# Altium schematic symbol library Schlib.SchLib: 94 symbols
Pins are listed as number, name and electrical type; pins without a type are passive.

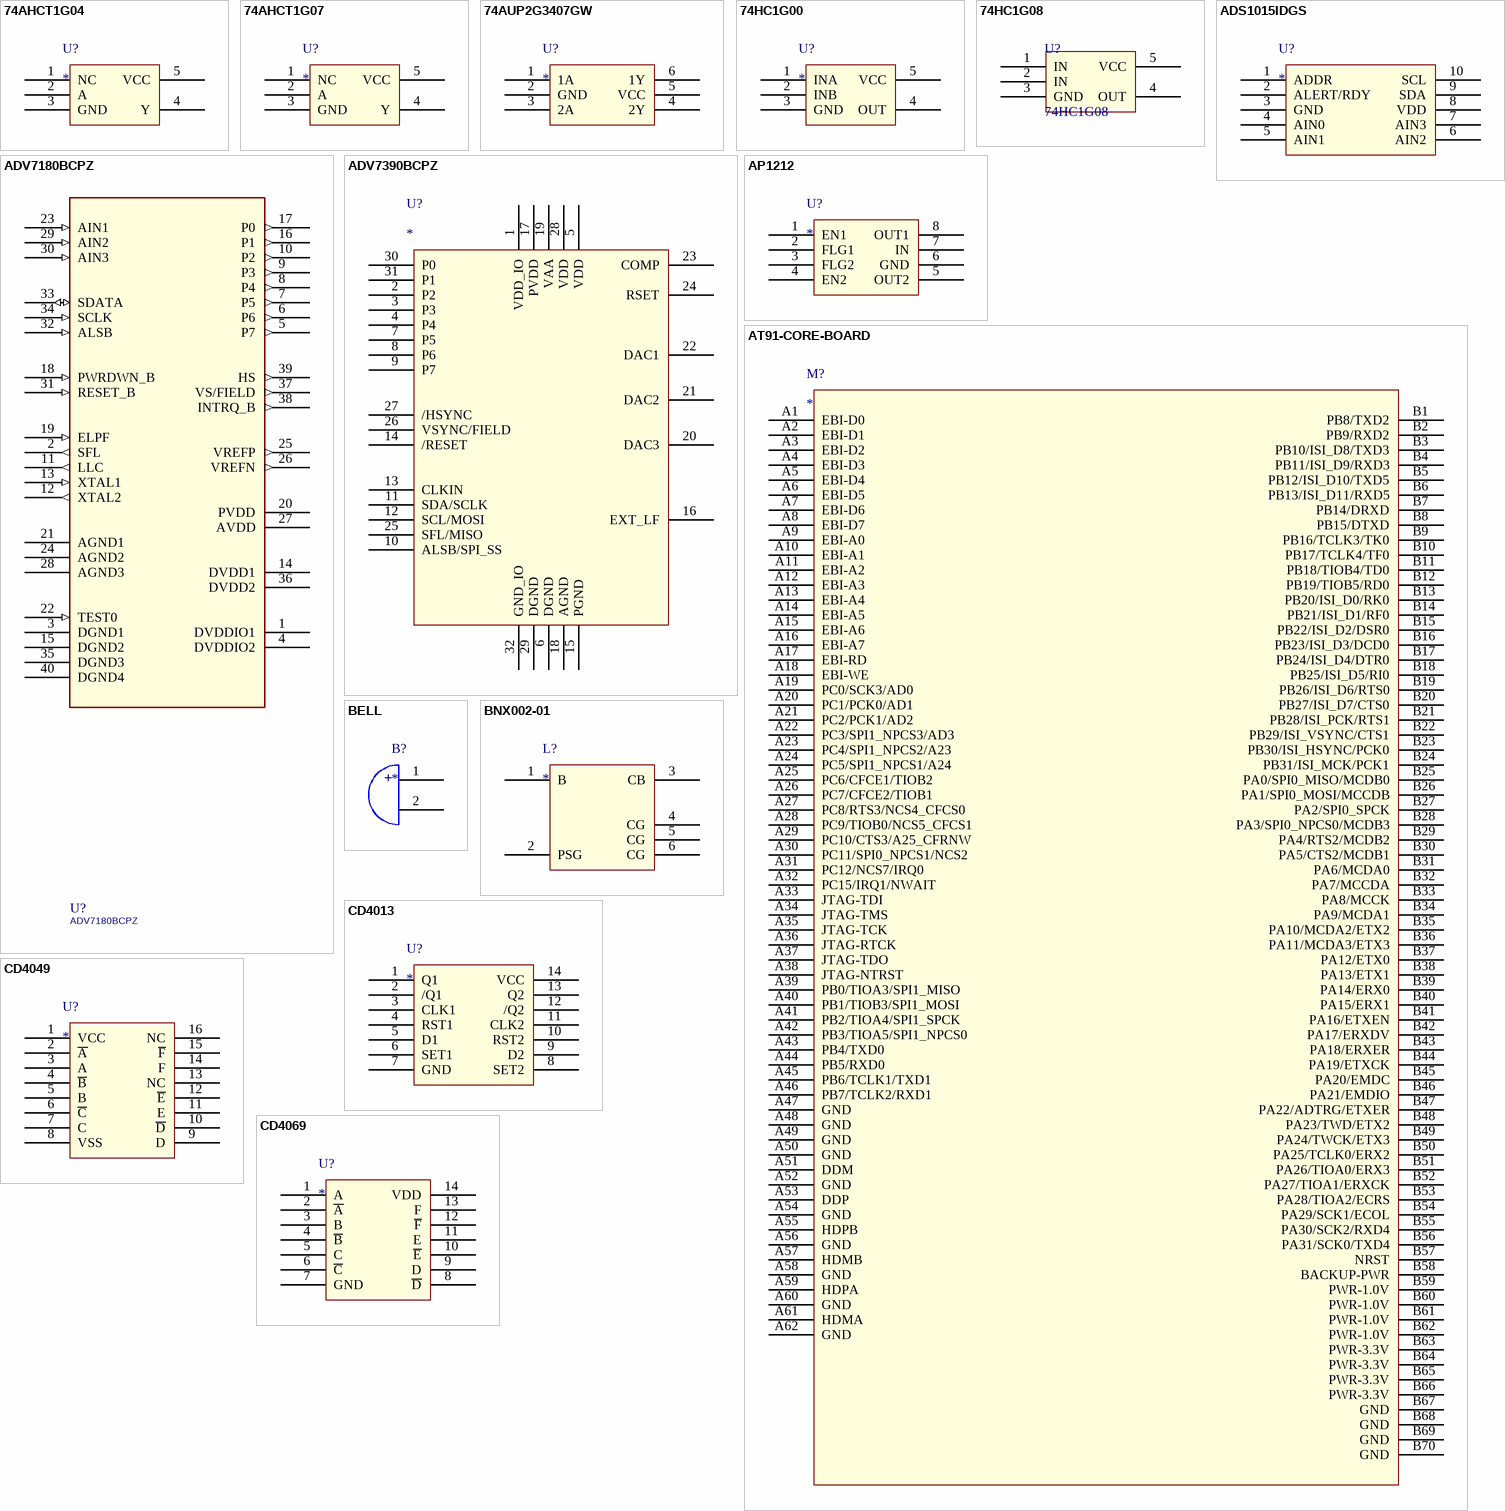
[diagram p0: symbols 74AHCT1G04 to CD4069]

## 74AHCT1G04
designator U?
pins: 1 NC, 2 A, 3 GND, 4 Y, 5 VCC

## 74AHCT1G07
designator U?
pins: 1 NC, 2 A, 3 GND, 4 Y, 5 VCC

## 74AUP2G3407GW
designator U?
pins: 1 1A, 2 GND, 3 2A, 4 2Y, 5 VCC, 6 1Y

## 74HC1G00
designator U?
pins: 1 INA, 2 INB, 3 GND, 4 OUT, 5 VCC

## 74HC1G08
designator U?
pins: 1 IN, 2 IN, 3 GND, 4 OUT, 5 VCC

## ADS1015IDGS
designator U?
pins: 1 ADDR, 2 ALERT/RDY, 3 GND, 4 AIN0, 5 AIN1, 6 AIN2, 7 AIN3, 8 VDD, 9 SDA, 10 SCL

## ADV7180BCPZ
designator U?
CLASS: IC
pins: 1 DVDDIO1 (power), 2 SFL (out), 3 DGND1 (power), 4 DVDDIO2 (power), 5 P7 (out), 6 P6 (out), 7 P5 (out), 8 P4 (out), 9 P3 (out), 10 P2 (out), 11 LLC (out), 12 XTAL2 (out), 13 XTAL1 (in), 14 DVDD1 (power), 15 DGND2 (power), 16 P1 (out), 17 P0 (out), 18 PWRDWN_B (in), 19 ELPF (in), 20 PVDD (power), 21 AGND1 (power), 22 TEST0 (in), 23 AIN1 (in), 24 AGND2 (power), 25 VREFP (out), 26 VREFN (out), 27 AVDD (power), 28 AGND3 (power), 29 AIN2 (in), 30 AIN3 (in), 31 RESET_B (in), 32 ALSB (in), 33 SDATA (io), 34 SCLK (in), 35 DGND3 (power), 36 DVDD2 (power), 37 VS/FIELD (out), 38 INTRQ_B (out), 39 HS (out), 40 DGND4 (power)

## ADV7390BCPZ
designator U?
pins: 1 VDD_IO, 2 P2, 3 P3, 4 P4, 5 VDD, 6 DGND, 7 P5, 8 P6, 9 P7, 10 ALSB/SPI_SS, 11 SDA/SCLK, 12 SCL/MOSI, 13 CLKIN, 14 /RESET, 15 PGND, 16 EXT_LF, 17 PVDD, 18 AGND, 19 VAA, 20 DAC3, 21 DAC2, 22 DAC1, 23 COMP, 24 RSET, 25 SFL/MISO, 26 VSYNC/FIELD, 27 /HSYNC, 28 VDD, 29 DGND, 30 P0, 31 P1, 32 GND_IO

## AP1212
designator U?
pins: 1 EN1, 2 FLG1, 3 FLG2, 4 EN2, 5 OUT2, 6 GND, 7 IN, 8 OUT1

## AT91-CORE-BOARD
designator M?
pins: A1 EBI-D0, A2 EBI-D1, A3 EBI-D2, A4 EBI-D3, A5 EBI-D4, A6 EBI-D5, A7 EBI-D6, A8 EBI-D7, A9 EBI-A0, A10 EBI-A1, A11 EBI-A2, A12 EBI-A3, A13 EBI-A4, A14 EBI-A5, A15 EBI-A6, A16 EBI-A7, A17 EBI-RD, A18 EBI-WE, A19 PC0/SCK3/AD0, A20 PC1/PCK0/AD1, A21 PC2/PCK1/AD2, A22 PC3/SPI1_NPCS3/AD3, A23 PC4/SPI1_NPCS2/A23, A24 PC5/SPI1_NPCS1/A24, A25 PC6/CFCE1/TIOB2, A26 PC7/CFCE2/TIOB1, A27 PC8/RTS3/NCS4_CFCS0, A28 PC9/TIOB0/NCS5_CFCS1, A29 PC10/CTS3/A25_CFRNW, A30 PC11/SPI0_NPCS1/NCS2, A31 PC12/NCS7/IRQ0, A32 PC15/IRQ1/NWAIT, A33 JTAG-TDI, A34 JTAG-TMS, A35 JTAG-TCK, A36 JTAG-RTCK, A37 JTAG-TDO, A38 JTAG-NTRST, A39 PB0/TIOA3/SPI1_MISO, A40 PB1/TIOB3/SPI1_MOSI, A41 PB2/TIOA4/SPI1_SPCK, A42 PB3/TIOA5/SPI1_NPCS0, A43 PB4/TXD0, A44 PB5/RXD0, A45 PB6/TCLK1/TXD1, A46 PB7/TCLK2/RXD1, A47 GND, A48 GND, A49 GND, A50 GND, A51 DDM, A52 GND, A53 DDP, A54 GND, A55 HDPB, A56 GND, A57 HDMB, A58 GND, A59 HDPA, A60 GND, A61 HDMA, A62 GND, B1 PB8/TXD2, B2 PB9/RXD2, B3 PB10/ISI_D8/TXD3, B4 PB11/ISI_D9/RXD3, B5 PB12/ISI_D10/TXD5, B6 PB13/ISI_D11/RXD5, B7 PB14/DRXD, B8 PB15/DTXD, B9 PB16/TCLK3/TK0, B10 PB17/TCLK4/TF0, B11 PB18/TIOB4/TD0, B12 PB19/TIOB5/RD0, B13 PB20/ISI_D0/RK0, B14 PB21/ISI_D1/RF0, B15 PB22/ISI_D2/DSR0, B16 PB23/ISI_D3/DCD0, B17 PB24/ISI_D4/DTR0, B18 PB25/ISI_D5/RI0, B19 PB26/ISI_D6/RTS0, B20 PB27/ISI_D7/CTS0, B21 PB28/ISI_PCK/RTS1, B22 PB29/ISI_VSYNC/CTS1, B23 PB30/ISI_HSYNC/PCK0, B24 PB31/ISI_MCK/PCK1, B25 PA0/SPI0_MISO/MCDB0, B26 PA1/SPI0_MOSI/MCCDB, B27 PA2/SPI0_SPCK, B28 PA3/SPI0_NPCS0/MCDB3, B29 PA4/RTS2/MCDB2, B30 PA5/CTS2/MCDB1, B31 PA6/MCDA0, B32 PA7/MCCDA, B33 PA8/MCCK, B34 PA9/MCDA1, B35 PA10/MCDA2/ETX2, B36 PA11/MCDA3/ETX3, B37 PA12/ETX0, B38 PA13/ETX1, B39 PA14/ERX0, B40 PA15/ERX1, B41 PA16/ETXEN, B42 PA17/ERXDV, B43 PA18/ERXER, B44 PA19/ETXCK, B45 PA20/EMDC, B46 PA21/EMDIO, B47 PA22/ADTRG/ETXER, B48 PA23/TWD/ETX2, B49 PA24/TWCK/ETX3, B50 PA25/TCLK0/ERX2, B51 PA26/TIOA0/ERX3, B52 PA27/TIOA1/ERXCK, B53 PA28/TIOA2/ECRS, B54 PA29/SCK1/ECOL, B55 PA30/SCK2/RXD4, B56 PA31/SCK0/TXD4, B57 NRST, B58 BACKUP-PWR, B59 PWR-1.0V, B60 PWR-1.0V, B61 PWR-1.0V, B62 PWR-1.0V, B63 PWR-3.3V, B64 PWR-3.3V, B65 PWR-3.3V, B66 PWR-3.3V, B67 GND, B68 GND, B69 GND, B70 GND

## BELL
designator B?
pins: 1, 2
text: +

## BNX002-01
designator L?
pins: 1 B, 2 PSG, 3 CB, 4 CG, 5 CG, 6 CG

## CD4013
designator U?
pins: 1 Q1, 2 /Q1, 3 CLK1, 4 RST1, 5 D1, 6 SET1, 7 GND, 8 SET2, 9 D2, 10 RST2, 11 CLK2, 12 /Q2, 13 Q2, 14 VCC

## CD4049
designator U?
pins: 1 VCC, 2 ~{A}, 3 A, 4 ~{B}, 5 B, 6 ~{C}, 7 C, 8 VSS, 9 D, 10 ~{D}, 11 E, 12 ~{E}, 13 NC, 14 F, 15 ~{F}, 16 NC

## CD4069
designator U?
pins: 1 A, 2 ~{A}, 3 B, 4 ~{B}, 5 C, 6 ~{C}, 7 GND, 8 ~{D}, 9 D, 10 ~{E}, 11 E, 12 ~{F}, 13 F, 14 VDD

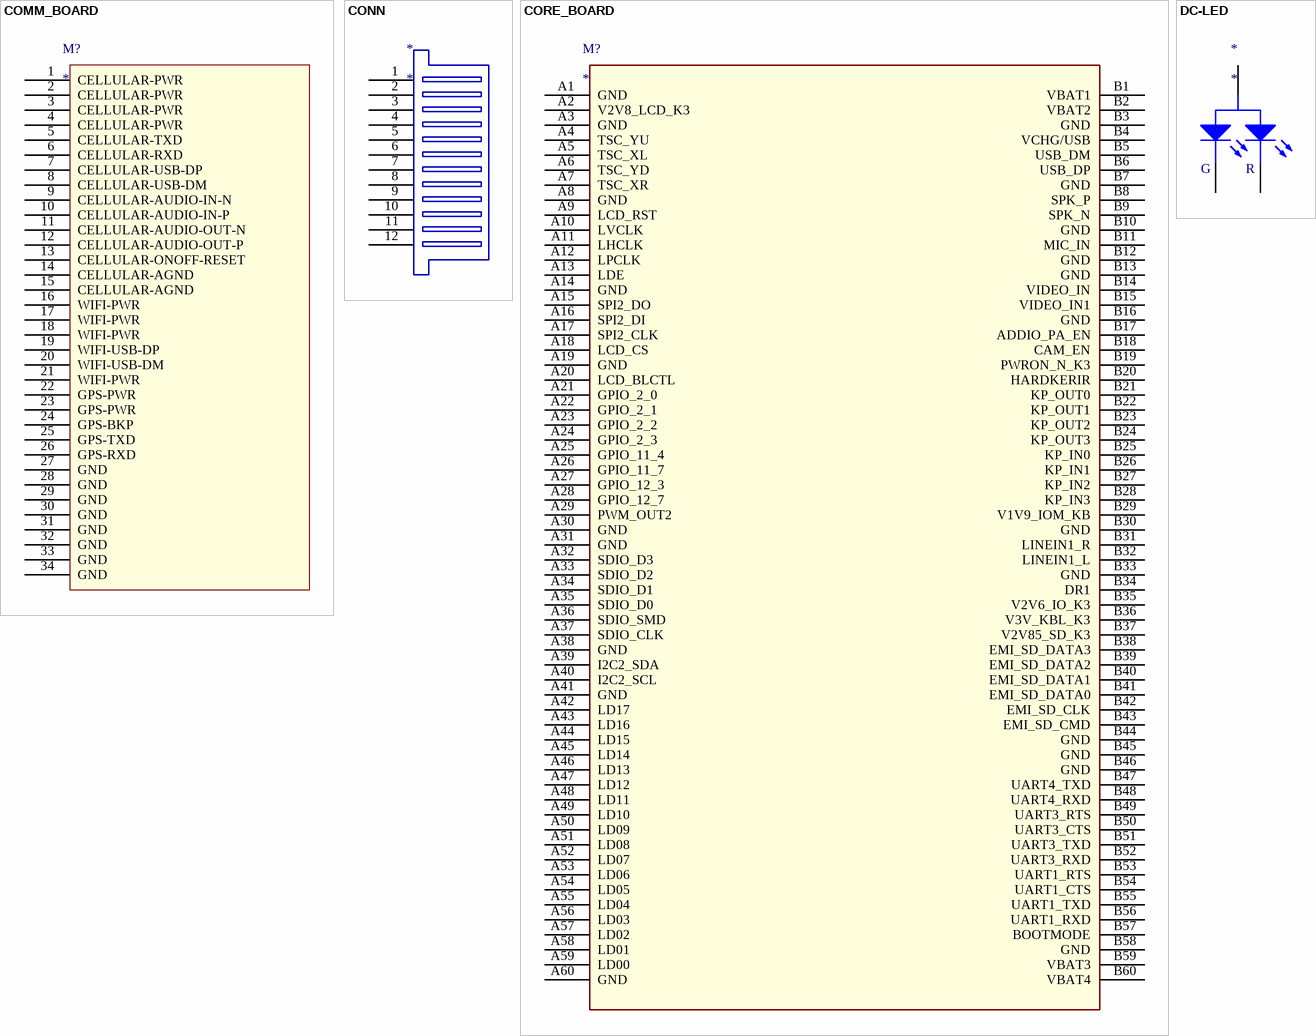
[diagram p1: symbols COMM_BOARD to DC-LED]

## COMM_BOARD
designator M?
pins: 1 CELLULAR-PWR, 2 CELLULAR-PWR, 3 CELLULAR-PWR, 4 CELLULAR-PWR, 5 CELLULAR-TXD, 6 CELLULAR-RXD, 7 CELLULAR-USB-DP, 8 CELLULAR-USB-DM, 9 CELLULAR-AUDIO-IN-N, 10 CELLULAR-AUDIO-IN-P, 11 CELLULAR-AUDIO-OUT-N, 12 CELLULAR-AUDIO-OUT-P, 13 CELLULAR-ONOFF-RESET, 14 CELLULAR-AGND, 15 CELLULAR-AGND, 16 WIFI-PWR, 17 WIFI-PWR, 18 WIFI-PWR, 19 WIFI-USB-DP, 20 WIFI-USB-DM, 21 WIFI-PWR, 22 GPS-PWR, 23 GPS-PWR, 24 GPS-BKP, 25 GPS-TXD, 26 GPS-RXD, 27 GND, 28 GND, 29 GND, 30 GND, 31 GND, 32 GND, 33 GND, 34 GND

## CONN
designator *
pins: 1, 2, 3, 4, 5, 6, 7, 8, 9, 10, 11, 12

## CORE_BOARD
designator M?
pins: A1 GND, A2 V2V8_LCD_K3, A3 GND, A4 TSC_YU, A5 TSC_XL, A6 TSC_YD, A7 TSC_XR, A8 GND, A9 LCD_RST, A10 LVCLK, A11 LHCLK, A12 LPCLK, A13 LDE, A14 GND, A15 SPI2_DO, A16 SPI2_DI, A17 SPI2_CLK, A18 LCD_CS, A19 GND, A20 LCD_BLCTL, A21 GPIO_2_0, A22 GPIO_2_1, A23 GPIO_2_2, A24 GPIO_2_3, A25 GPIO_11_4, A26 GPIO_11_7, A27 GPIO_12_3, A28 GPIO_12_7, A29 PWM_OUT2, A30 GND, A31 GND, A32 SDIO_D3, A33 SDIO_D2, A34 SDIO_D1, A35 SDIO_D0, A36 SDIO_SMD, A37 SDIO_CLK, A38 GND, A39 I2C2_SDA, A40 I2C2_SCL, A41 GND, A42 LD17, A43 LD16, A44 LD15, A45 LD14, A46 LD13, A47 LD12, A48 LD11, A49 LD10, A50 LD09, A51 LD08, A52 LD07, A53 LD06, A54 LD05, A55 LD04, A56 LD03, A57 LD02, A58 LD01, A59 LD00, A60 GND, B1 VBAT1, B2 VBAT2, B3 GND, B4 VCHG/USB, B5 USB_DM, B6 USB_DP, B7 GND, B8 SPK_P, B9 SPK_N, B10 GND, B11 MIC_IN, B12 GND, B13 GND, B14 VIDEO_IN, B15 VIDEO_IN1, B16 GND, B17 ADDIO_PA_EN, B18 CAM_EN, B19 PWRON_N_K3, B20 HARDKERIR, B21 KP_OUT0, B22 KP_OUT1, B23 KP_OUT2, B24 KP_OUT3, B25 KP_IN0, B26 KP_IN1, B27 KP_IN2, B28 KP_IN3, B29 V1V9_IOM_KB, B30 GND, B31 LINEIN1_R, B32 LINEIN1_L, B33 GND, B34 DR1, B35 V2V6_IO_K3, B36 V3V_KBL_K3, B37 V2V85_SD_K3, B38 EMI_SD_DATA3, B39 EMI_SD_DATA2, B40 EMI_SD_DATA1, B41 EMI_SD_DATA0, B42 EMI_SD_CLK, B43 EMI_SD_CMD, B44 GND, B45 GND, B46 GND, B47 UART4_TXD, B48 UART4_RXD, B49 UART3_RTS, B50 UART3_CTS, B51 UART3_TXD, B52 UART3_RXD, B53 UART1_RTS, B54 UART1_CTS, B55 UART1_TXD, B56 UART1_RXD, B57 BOOTMODE, B58 GND, B59 VBAT3, B60 VBAT4

## DC-LED
designator *
pins: 1 A, 2 K, 3 K
text: G; R

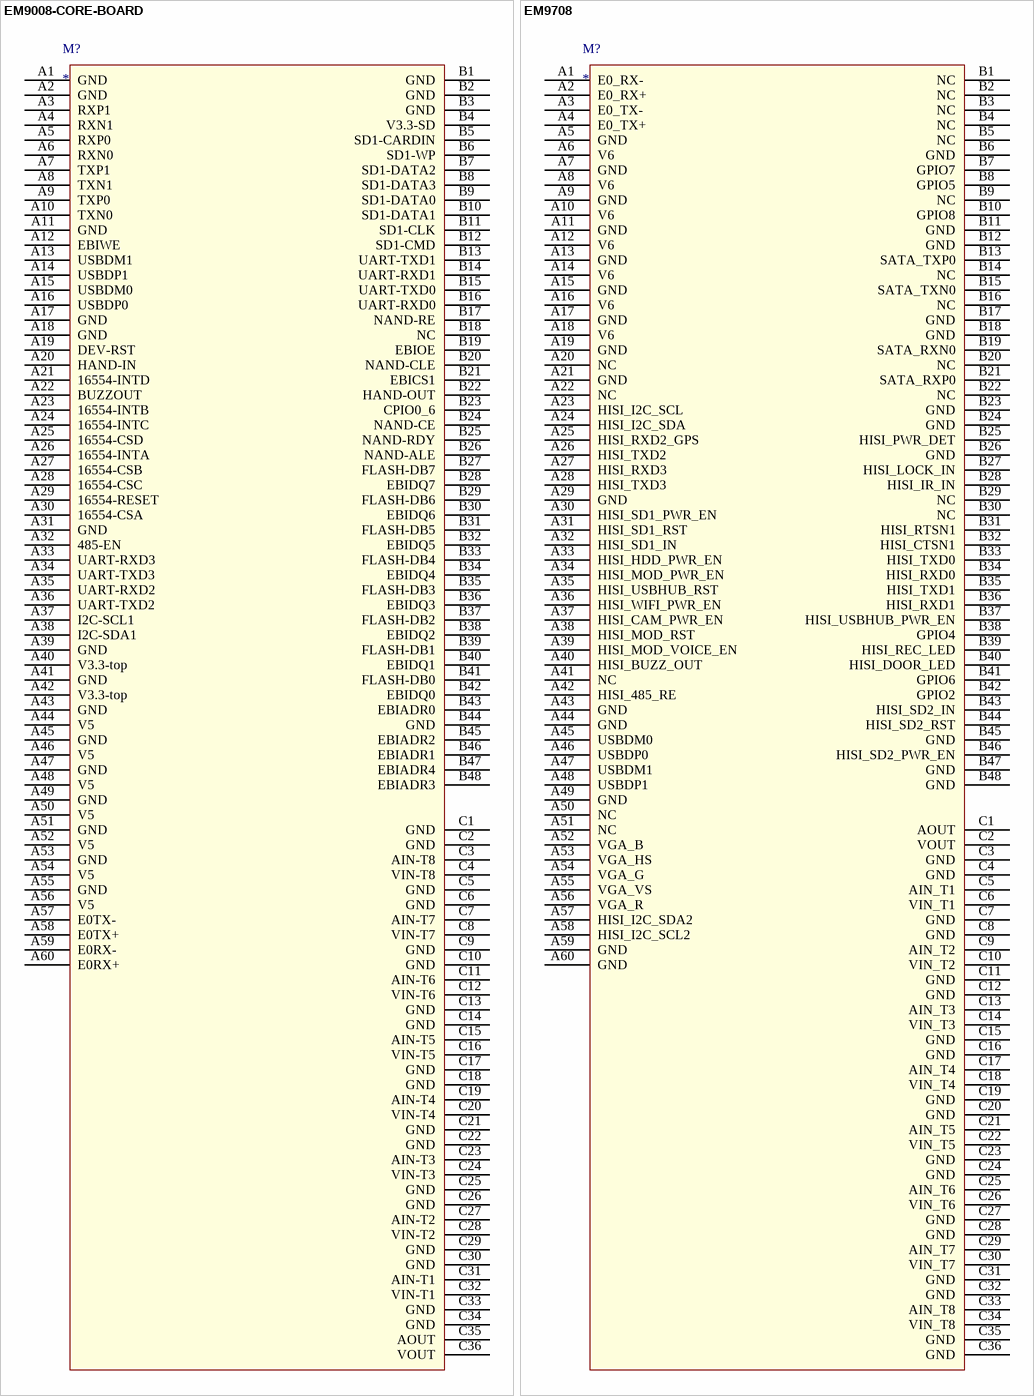
[diagram p2: symbols EM9008-CORE-BOARD to EM9708]

## EM9008-CORE-BOARD
designator M?
pins: A1 GND, A2 GND, A3 RXP1, A4 RXN1, A5 RXP0, A6 RXN0, A7 TXP1, A8 TXN1, A9 TXP0, A10 TXN0, A11 GND, A12 EBIWE, A13 USBDM1, A14 USBDP1, A15 USBDM0, A16 USBDP0, A17 GND, A18 GND, A19 DEV-RST, A20 HAND-IN, A21 16554-INTD, A22 BUZZOUT, A23 16554-INTB, A24 16554-INTC, A25 16554-CSD, A26 16554-INTA, A27 16554-CSB, A28 16554-CSC, A29 16554-RESET, A30 16554-CSA, A31 GND, A32 485-EN, A33 UART-RXD3, A34 UART-TXD3, A35 UART-RXD2, A36 UART-TXD2, A37 I2C-SCL1, A38 I2C-SDA1, A39 GND, A40 V3.3-top, A41 GND, A42 V3.3-top, A43 GND, A44 V5, A45 GND, A46 V5, A47 GND, A48 V5, A49 GND, A50 V5, A51 GND, A52 V5, A53 GND, A54 V5, A55 GND, A56 V5, A57 E0TX-, A58 E0TX+, A59 E0RX-, A60 E0RX+, B1 GND, B2 GND, B3 GND, B4 V3.3-SD, B5 SD1-CARDIN, B6 SD1-WP, B7 SD1-DATA2, B8 SD1-DATA3, B9 SD1-DATA0, B10 SD1-DATA1, B11 SD1-CLK, B12 SD1-CMD, B13 UART-TXD1, B14 UART-RXD1, B15 UART-TXD0, B16 UART-RXD0, B17 NAND-RE, B18 NC, B19 EBIOE, B20 NAND-CLE, B21 EBICS1, B22 HAND-OUT, B23 CPIO0_6, B24 NAND-CE, B25 NAND-RDY, B26 NAND-ALE, B27 FLASH-DB7, B28 EBIDQ7, B29 FLASH-DB6, B30 EBIDQ6, B31 FLASH-DB5, B32 EBIDQ5, B33 FLASH-DB4, B34 EBIDQ4, B35 FLASH-DB3, B36 EBIDQ3, B37 FLASH-DB2, B38 EBIDQ2, B39 FLASH-DB1, B40 EBIDQ1, B41 FLASH-DB0, B42 EBIDQ0, B43 EBIADR0, B44 GND, B45 EBIADR2, B46 EBIADR1, B47 EBIADR4, B48 EBIADR3, C1 GND, C2 GND, C3 AIN-T8, C4 VIN-T8, C5 GND, C6 GND, C7 AIN-T7, C8 VIN-T7, C9 GND, C10 GND, C11 AIN-T6, C12 VIN-T6, C13 GND, C14 GND, C15 AIN-T5, C16 VIN-T5, C17 GND, C18 GND, C19 AIN-T4, C20 VIN-T4, C21 GND, C22 GND, C23 AIN-T3, C24 VIN-T3, C25 GND, C26 GND, C27 AIN-T2, C28 VIN-T2, C29 GND, C30 GND, C31 AIN-T1, C32 VIN-T1, C33 GND, C34 GND, C35 AOUT, C36 VOUT

## EM9708
designator M?
pins: A1 E0_RX-, A2 E0_RX+, A3 E0_TX-, A4 E0_TX+, A5 GND, A6 V6, A7 GND, A8 V6, A9 GND, A10 V6, A11 GND, A12 V6, A13 GND, A14 V6, A15 GND, A16 V6, A17 GND, A18 V6, A19 GND, A20 NC, A21 GND, A22 NC, A23 HISI_I2C_SCL, A24 HISI_I2C_SDA, A25 HISI_RXD2_GPS, A26 HISI_TXD2, A27 HISI_RXD3, A28 HISI_TXD3, A29 GND, A30 HISI_SD1_PWR_EN, A31 HISI_SD1_RST, A32 HISI_SD1_IN, A33 HISI_HDD_PWR_EN, A34 HISI_MOD_PWR_EN, A35 HISI_USBHUB_RST, A36 HISI_WIFI_PWR_EN, A37 HISI_CAM_PWR_EN, A38 HISI_MOD_RST, A39 HISI_MOD_VOICE_EN, A40 HISI_BUZZ_OUT, A41 NC, A42 HISI_485_RE, A43 GND, A44 GND, A45 USBDM0, A46 USBDP0, A47 USBDM1, A48 USBDP1, A49 GND, A50 NC, A51 NC, A52 VGA_B, A53 VGA_HS, A54 VGA_G, A55 VGA_VS, A56 VGA_R, A57 HISI_I2C_SDA2, A58 HISI_I2C_SCL2, A59 GND, A60 GND, B1 NC, B2 NC, B3 NC, B4 NC, B5 NC, B6 GND, B7 GPIO7, B8 GPIO5, B9 NC, B10 GPIO8, B11 GND, B12 GND, B13 SATA_TXP0, B14 NC, B15 SATA_TXN0, B16 NC, B17 GND, B18 GND, B19 SATA_RXN0, B20 NC, B21 SATA_RXP0, B22 NC, B23 GND, B24 GND, B25 HISI_PWR_DET, B26 GND, B27 HISI_LOCK_IN, B28 HISI_IR_IN, B29 NC, B30 NC, B31 HISI_RTSN1, B32 HISI_CTSN1, B33 HISI_TXD0, B34 HISI_RXD0, B35 HISI_TXD1, B36 HISI_RXD1, B37 HISI_USBHUB_PWR_EN, B38 GPIO4, B39 HISI_REC_LED, B40 HISI_DOOR_LED, B41 GPIO6, B42 GPIO2, B43 HISI_SD2_IN, B44 HISI_SD2_RST, B45 GND, B46 HISI_SD2_PWR_EN, B47 GND, B48 GND, C1 AOUT, C2 VOUT, C3 GND, C4 GND, C5 AIN_T1, C6 VIN_T1, C7 GND, C8 GND, C9 AIN_T2, C10 VIN_T2, C11 GND, C12 GND, C13 AIN_T3, C14 VIN_T3, C15 GND, C16 GND, C17 AIN_T4, C18 VIN_T4, C19 GND, C20 GND, C21 AIN_T5, C22 VIN_T5, C23 GND, C24 GND, C25 AIN_T6, C26 VIN_T6, C27 GND, C28 GND, C29 AIN_T7, C30 VIN_T7, C31 GND, C32 GND, C33 AIN_T8, C34 VIN_T8, C35 GND, C36 GND

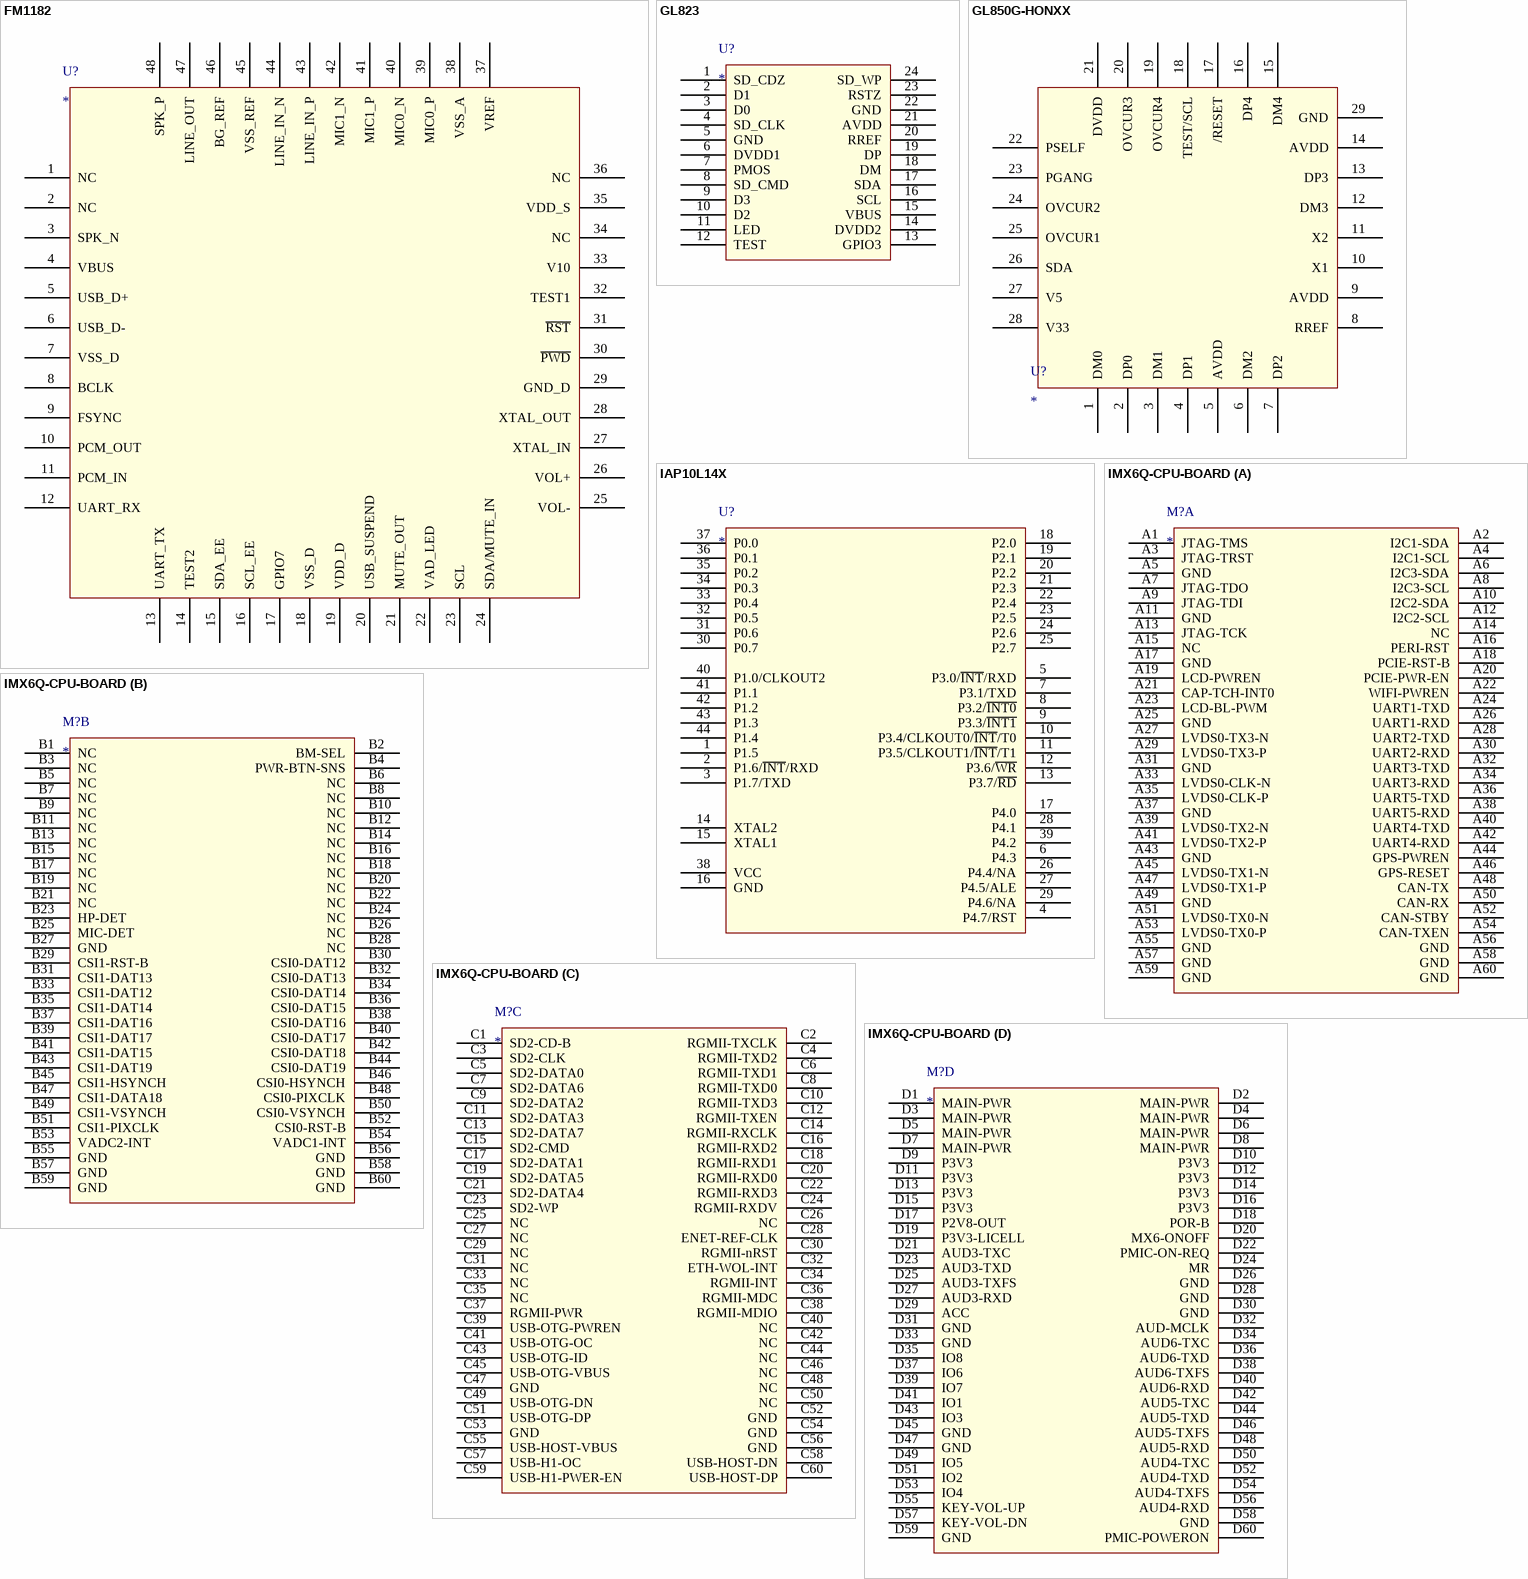
[diagram p3: symbols FM1182 to IMX6Q-CPU-BOARD]

## FM1182
designator U?
pins: 1 NC, 2 NC, 3 SPK_N, 4 VBUS, 5 USB_D+, 6 USB_D-, 7 VSS_D, 8 BCLK, 9 FSYNC, 10 PCM_OUT, 11 PCM_IN, 12 UART_RX, 13 UART_TX, 14 TEST2, 15 SDA_EE, 16 SCL_EE, 17 GPIO7, 18 VSS_D, 19 VDD_D, 20 USB_SUSPEND, 21 MUTE_OUT, 22 VAD_LED, 23 SCL, 24 SDA/MUTE_IN, 25 VOL-, 26 VOL+, 27 XTAL_IN, 28 XTAL_OUT, 29 GND_D, 30 ~{PWD}, 31 ~{RST}, 32 TEST1, 33 V10, 34 NC, 35 VDD_S, 36 NC, 37 VREF, 38 VSS_A, 39 MIC0_P, 40 MIC0_N, 41 MIC1_P, 42 MIC1_N, 43 LINE_IN_P, 44 LINE_IN_N, 45 VSS_REF, 46 BG_REF, 47 LINE_OUT, 48 SPK_P

## GL823
designator U?
pins: 1 SD_CDZ, 2 D1, 3 D0, 4 SD_CLK, 5 GND, 6 DVDD1, 7 PMOS, 8 SD_CMD, 9 D3, 10 D2, 11 LED, 12 TEST, 13 GPIO3, 14 DVDD2, 15 VBUS, 16 SCL, 17 SDA, 18 DM, 19 DP, 20 RREF, 21 AVDD, 22 GND, 23 RSTZ, 24 SD_WP

## GL850G-HONXX
designator U?
pins: 1 DM0, 2 DP0, 3 DM1, 4 DP1, 5 AVDD, 6 DM2, 7 DP2, 8 RREF, 9 AVDD, 10 X1, 11 X2, 12 DM3, 13 DP3, 14 AVDD, 15 DM4, 16 DP4, 17 /RESET, 18 TEST/SCL, 19 OVCUR4, 20 OVCUR3, 21 DVDD, 22 PSELF, 23 PGANG, 24 OVCUR2, 25 OVCUR1, 26 SDA, 27 V5, 28 V33, 29 GND

## IAP10L14X
designator U?
pins: 1 P1.5, 2 P1.6/~{INT}/RXD, 3 P1.7/TXD, 4 P4.7/RST, 5 P3.0/~{INT}/RXD, 6 P4.3, 7 P3.1/TXD, 8 P3.2/~{INT0}, 9 P3.3/~{INT1}, 10 P3.4/CLKOUT0/~{INT}/T0, 11 P3.5/CLKOUT1/~{INT}/T1, 12 P3.6/~{WR}, 13 P3.7/~{RD}, 14 XTAL2, 15 XTAL1, 16 GND, 17 P4.0, 18 P2.0, 19 P2.1, 20 P2.2, 21 P2.3, 22 P2.4, 23 P2.5, 24 P2.6, 25 P2.7, 26 P4.4/NA, 27 P4.5/ALE, 28 P4.1, 29 P4.6/NA, 30 P0.7, 31 P0.6, 32 P0.5, 33 P0.4, 34 P0.3, 35 P0.2, 36 P0.1, 37 P0.0, 38 VCC, 39 P4.2, 40 P1.0/CLKOUT2, 41 P1.1, 42 P1.2, 43 P1.3, 44 P1.4

## IMX6Q-CPU-BOARD
designator M?
part A pins: A1 JTAG-TMS, A2 I2C1-SDA, A3 JTAG-TRST, A4 I2C1-SCL, A5 GND, A6 I2C3-SDA, A7 JTAG-TDO, A8 I2C3-SCL, A9 JTAG-TDI, A10 I2C2-SDA, A11 GND, A12 I2C2-SCL, A13 JTAG-TCK, A14 NC, A15 NC, A16 PERI-RST, A17 GND, A18 PCIE-RST-B, A19 LCD-PWREN, A20 PCIE-PWR-EN, A21 CAP-TCH-INT0, A22 WIFI-PWREN, A23 LCD-BL-PWM, A24 UART1-TXD, A25 GND, A26 UART1-RXD, A27 LVDS0-TX3-N, A28 UART2-TXD, A29 LVDS0-TX3-P, A30 UART2-RXD, A31 GND, A32 UART3-TXD, A33 LVDS0-CLK-N, A34 UART3-RXD, A35 LVDS0-CLK-P, A36 UART5-TXD, A37 GND, A38 UART5-RXD, A39 LVDS0-TX2-N, A40 UART4-TXD, A41 LVDS0-TX2-P, A42 UART4-RXD, A43 GND, A44 GPS-PWREN, A45 LVDS0-TX1-N, A46 GPS-RESET, A47 LVDS0-TX1-P, A48 CAN-TX, A49 GND, A50 CAN-RX, A51 LVDS0-TX0-N, A52 CAN-STBY, A53 LVDS0-TX0-P, A54 CAN-TXEN, A55 GND, A56 GND, A57 GND, A58 GND, A59 GND, A60 GND
part B pins: B1 NC, B2 BM-SEL, B3 NC, B4 PWR-BTN-SNS, B5 NC, B6 NC, B7 NC, B8 NC, B9 NC, B10 NC, B11 NC, B12 NC, B13 NC, B14 NC, B15 NC, B16 NC, B17 NC, B18 NC, B19 NC, B20 NC, B21 NC, B22 NC, B23 HP-DET, B24 NC, B25 MIC-DET, B26 NC, B27 GND, B28 NC, B29 CSI1-RST-B, B30 CSI0-DAT12, B31 CSI1-DAT13, B32 CSI0-DAT13, B33 CSI1-DAT12, B34 CSI0-DAT14, B35 CSI1-DAT14, B36 CSI0-DAT15, B37 CSI1-DAT16, B38 CSI0-DAT16, B39 CSI1-DAT17, B40 CSI0-DAT17, B41 CSI1-DAT15, B42 CSI0-DAT18, B43 CSI1-DAT19, B44 CSI0-DAT19, B45 CSI1-HSYNCH, B46 CSI0-HSYNCH, B47 CSI1-DATA18, B48 CSI0-PIXCLK, B49 CSI1-VSYNCH, B50 CSI0-VSYNCH, B51 CSI1-PIXCLK, B52 CSI0-RST-B, B53 VADC2-INT, B54 VADC1-INT, B55 GND, B56 GND, B57 GND, B58 GND, B59 GND, B60 GND
part C pins: C1 SD2-CD-B, C2 RGMII-TXCLK, C3 SD2-CLK, C4 RGMII-TXD2, C5 SD2-DATA0, C6 RGMII-TXD1, C7 SD2-DATA6, C8 RGMII-TXD0, C9 SD2-DATA2, C10 RGMII-TXD3, C11 SD2-DATA3, C12 RGMII-TXEN, C13 SD2-DATA7, C14 RGMII-RXCLK, C15 SD2-CMD, C16 RGMII-RXD2, C17 SD2-DATA1, C18 RGMII-RXD1, C19 SD2-DATA5, C20 RGMII-RXD0, C21 SD2-DATA4, C22 RGMII-RXD3, C23 SD2-WP, C24 RGMII-RXDV, C25 NC, C26 NC, C27 NC, C28 ENET-REF-CLK, C29 NC, C30 RGMII-nRST, C31 NC, C32 ETH-WOL-INT, C33 NC, C34 RGMII-INT, C35 NC, C36 RGMII-MDC, C37 RGMII-PWR, C38 RGMII-MDIO, C39 USB-OTG-PWREN, C40 NC, C41 USB-OTG-OC, C42 NC, C43 USB-OTG-ID, C44 NC, C45 USB-OTG-VBUS, C46 NC, C47 GND, C48 NC, C49 USB-OTG-DN, C50 NC, C51 USB-OTG-DP, C52 GND, C53 GND, C54 GND, C55 USB-HOST-VBUS, C56 GND, C57 USB-H1-OC, C58 USB-HOST-DN, C59 USB-H1-PWER-EN, C60 USB-HOST-DP
part D pins: D1 MAIN-PWR, D2 MAIN-PWR, D3 MAIN-PWR, D4 MAIN-PWR, D5 MAIN-PWR, D6 MAIN-PWR, D7 MAIN-PWR, D8 MAIN-PWR, D9 P3V3, D10 P3V3, D11 P3V3, D12 P3V3, D13 P3V3, D14 P3V3, D15 P3V3, D16 P3V3, D17 P2V8-OUT, D18 POR-B, D19 P3V3-LICELL, D20 MX6-ONOFF, D21 AUD3-TXC, D22 PMIC-ON-REQ, D23 AUD3-TXD, D24 MR, D25 AUD3-TXFS, D26 GND, D27 AUD3-RXD, D28 GND, D29 ACC, D30 GND, D31 GND, D32 AUD-MCLK, D33 GND, D34 AUD6-TXC, D35 IO8, D36 AUD6-TXD, D37 IO6, D38 AUD6-TXFS, D39 IO7, D40 AUD6-RXD, D41 IO1, D42 AUD5-TXC, D43 IO3, D44 AUD5-TXD, D45 GND, D46 AUD5-TXFS, D47 GND, D48 AUD5-RXD, D49 IO5, D50 AUD4-TXC, D51 IO2, D52 AUD4-TXD, D53 IO4, D54 AUD4-TXFS, D55 KEY-VOL-UP, D56 AUD4-RXD, D57 KEY-VOL-DN, D58 GND, D59 GND, D60 PMIC-POWERON

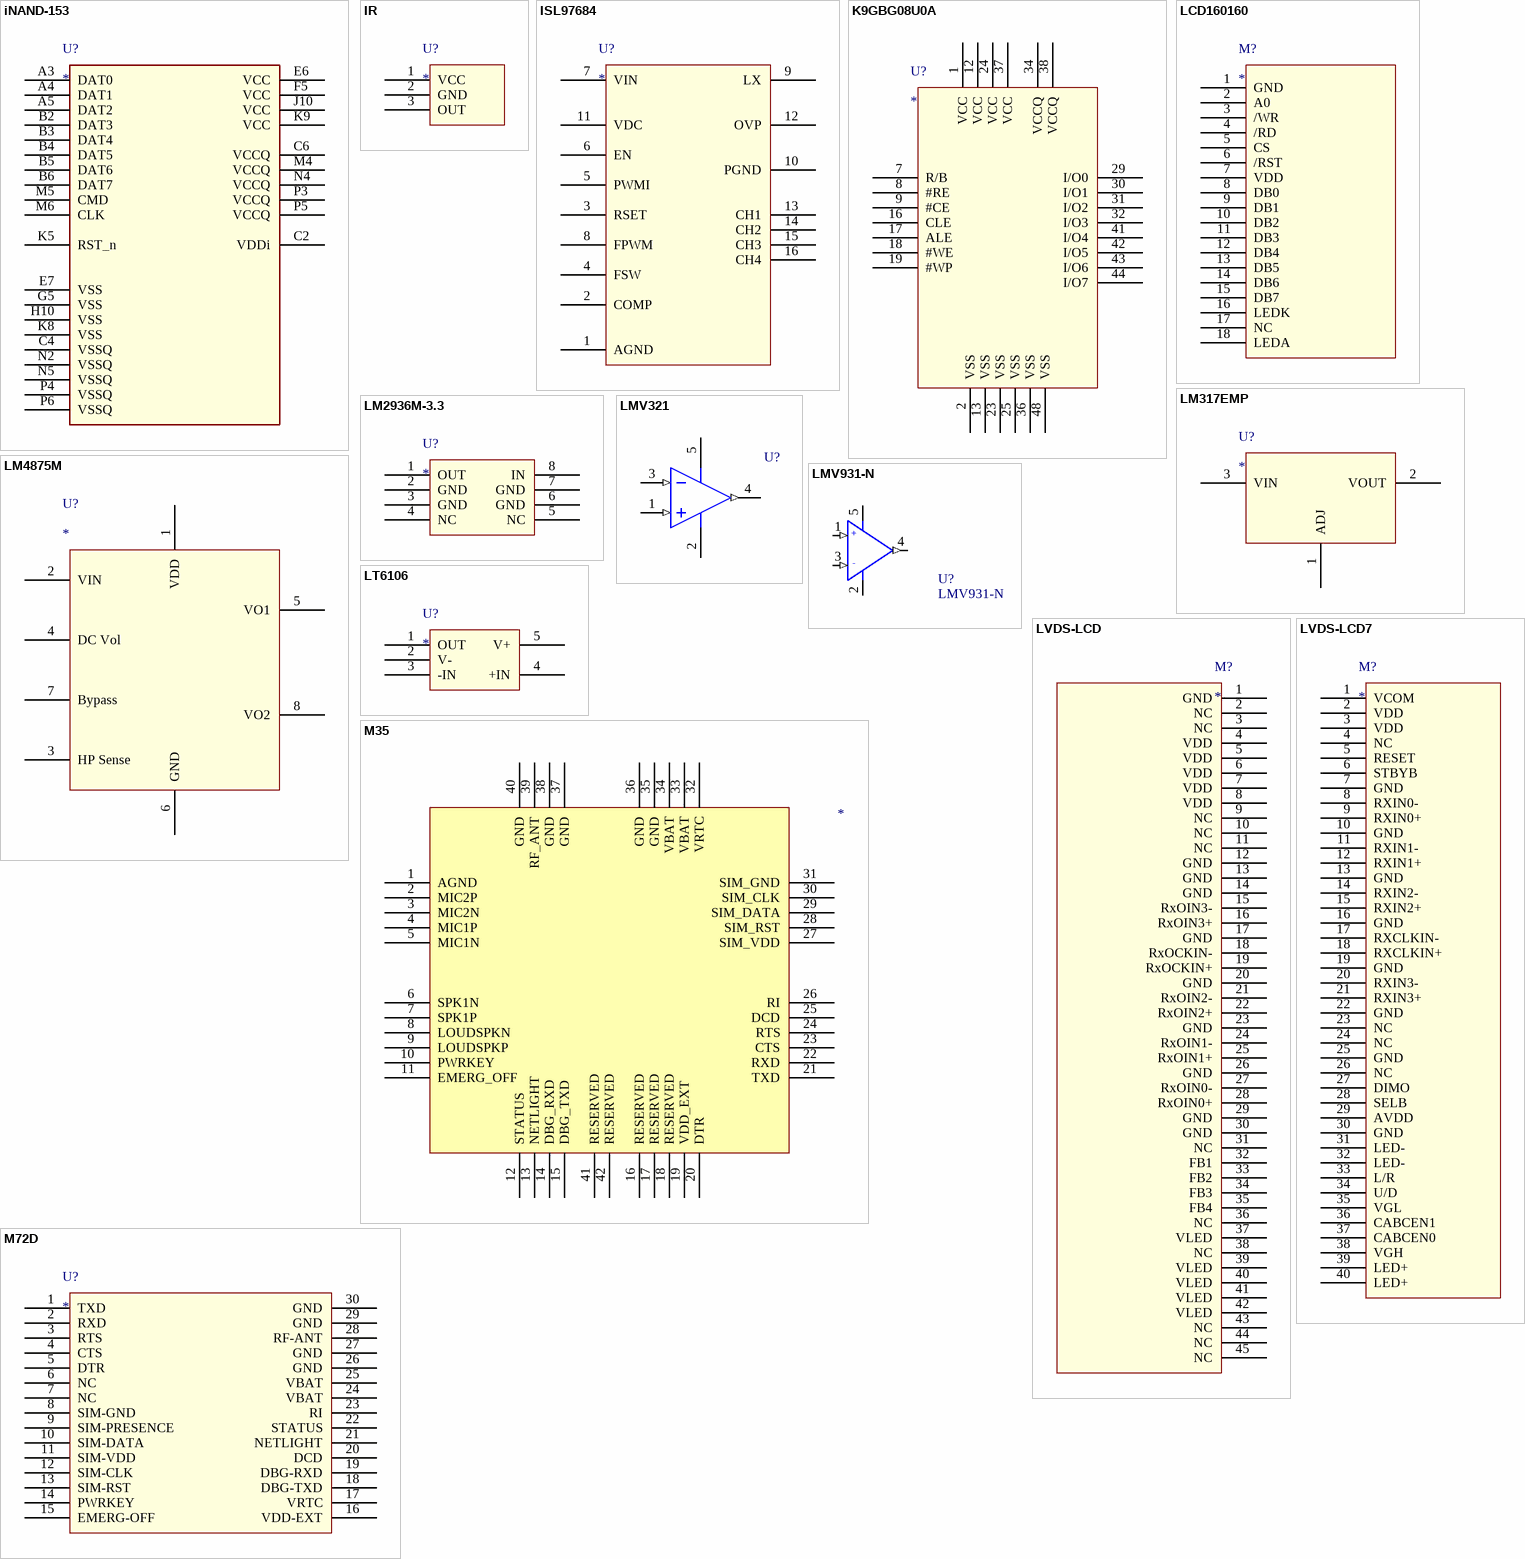
[diagram p4: symbols iNAND-153 to M72D]

## iNAND-153
designator U?
footprint Model Name (Footprint not found)
pins: A3 DAT0, A4 DAT1, A5 DAT2, B2 DAT3, B3 DAT4, B4 DAT5, B5 DAT6, B6 DAT7, C2 VDDi (power), C4 VSSQ (power), C6 VCCQ (power), E6 VCC (power), E7 VSS (power), F5 VCC (power), G5 VSS (power), H10 VSS (power), J10 VCC (power), K5 RST_n, K8 VSS (power), K9 VCC (power), M4 VCCQ (power), M5 CMD, M6 CLK, N2 VSSQ (power), N4 VCCQ (power), N5 VSSQ (power), P3 VCCQ (power), P4 VSSQ (power), P5 VCCQ (power), P6 VSSQ (power)

## IR
designator U?
pins: 1 VCC, 2 GND, 3 OUT

## ISL97684
designator U?
pins: 1 AGND, 2 COMP, 3 RSET, 4 FSW, 5 PWMI, 6 EN, 7 VIN, 8 FPWM, 9 LX, 10 PGND, 11 VDC, 12 OVP, 13 CH1, 14 CH2, 15 CH3, 16 CH4

## K9GBG08U0A
designator U?
pins: 1 VCC, 2 VSS, 7 R/B, 8 #RE, 9 #CE, 12 VCC, 13 VSS, 16 CLE, 17 ALE, 18 #WE, 19 #WP, 23 VSS, 24 VCC, 25 VSS, 29 I/O0, 30 I/O1, 31 I/O2, 32 I/O3, 34 VCCQ, 36 VSS, 37 VCC, 38 VCCQ, 41 I/O4, 42 I/O5, 43 I/O6, 44 I/O7, 48 VSS

## LCD160160
designator M?
pins: 1 GND, 2 A0, 3 /WR, 4 /RD, 5 CS, 6 /RST, 7 VDD, 8 DB0, 9 DB1, 10 DB2, 11 DB3, 12 DB4, 13 DB5, 14 DB6, 15 DB7, 16 LEDK, 17 NC, 18 LEDA

## LM317EMP
designator U?
pins: 1 ADJ, 2 VOUT, 3 VIN

## LM2936M-3.3
designator U?
pins: 1 OUT, 2 GND, 3 GND, 4 NC, 5 NC, 6 GND, 7 GND, 8 IN

## LM4875M
designator U?
pins: 1 VDD, 2 VIN, 3 HP Sense, 4 DC Vol, 5 VO1, 6 GND, 7 Bypass, 8 VO2

## LMV321
designator U?
Dual Operational Amplifier; Published: 16-Jan-2001; LatestRevisionDate: 13-Apr-2006; LatestRevisionNote: IPC-7351 Footprint Added.; DatasheetVersion: Aug-1994; PackageVersion: Jan-1998; PackageReference: D008; Publisher: Altium Limited; PackageDescription: 8-Pin Small Outline Integrated Circuit 1.27 mm Pitch; Code_IPC: SOIC127P600-8; ComponentLink1Description: Manufacturer Link; ComponentLink1URL: http://www.ti.com/; ComponentLink2Description: Datasheet; ComponentLink2URL: http://www-s.ti.com/sc/ds/lf353.pdf
footprint D008_L (SOIC, 8-Leads, Body 4.9x3.9mm, Pitch 1.27mm, IPC High Density)
footprint D008_M (SOIC, 8-Leads, Body 4.9x3.9mm, Pitch 1.27mm, IPC Low Density)
footprint D008_M (SOIC, 8-Leads, Body 4.9x3.9mm, Pitch 1.27mm, IPC Low Density)
3D model D008 (8-Pin Small Outline Integrated Circuit 1.27 mm Pitch)
simulation model LF353 (SUBCKT)
pins: 1 IN+ (in), 2 GND (power), 3 IN- (in), 4 OUT (out), 5 VCC (power)

## LMV931-N
designator U?
pins: 1 IN+ (in), 2 V- (power), 3 IN- (in), 4 OUT (out), 5 V+ (power)
text: +; -

## LT6106
designator U?
pins: 1 OUT, 2 V-, 3 -IN, 4 +IN, 5 V+

## LVDS-LCD
designator M?
pins: 1 GND, 2 NC, 3 NC, 4 VDD, 5 VDD, 6 VDD, 7 VDD, 8 VDD, 9 NC, 10 NC, 11 NC, 12 GND, 13 GND, 14 GND, 15 RxOIN3-, 16 RxOIN3+, 17 GND, 18 RxOCKIN-, 19 RxOCKIN+, 20 GND, 21 RxOIN2-, 22 RxOIN2+, 23 GND, 24 RxOIN1-, 25 RxOIN1+, 26 GND, 27 RxOIN0-, 28 RxOIN0+, 29 GND, 30 GND, 31 NC, 32 FB1, 33 FB2, 34 FB3, 35 FB4, 36 NC, 37 VLED, 38 NC, 39 VLED, 40 VLED, 41 VLED, 42 VLED, 43 NC, 44 NC, 45 NC

## LVDS-LCD7
designator M?
pins: 1 VCOM, 2 VDD, 3 VDD, 4 NC, 5 RESET, 6 STBYB, 7 GND, 8 RXIN0-, 9 RXIN0+, 10 GND, 11 RXIN1-, 12 RXIN1+, 13 GND, 14 RXIN2-, 15 RXIN2+, 16 GND, 17 RXCLKIN-, 18 RXCLKIN+, 19 GND, 20 RXIN3-, 21 RXIN3+, 22 GND, 23 NC, 24 NC, 25 GND, 26 NC, 27 DIMO, 28 SELB, 29 AVDD, 30 GND, 31 LED-, 32 LED-, 33 L/R, 34 U/D, 35 VGL, 36 CABCEN1, 37 CABCEN0, 38 VGH, 39 LED+, 40 LED+

## M35
designator ?
pins: 1 AGND, 2 MIC2P, 3 MIC2N, 4 MIC1P, 5 MIC1N, 6 SPK1N, 7 SPK1P, 8 LOUDSPKN, 9 LOUDSPKP, 10 PWRKEY, 11 EMERG_OFF, 12 STATUS, 13 NETLIGHT, 14 DBG_RXD, 15 DBG_TXD, 16 RESERVED, 17 RESERVED, 18 RESERVED, 19 VDD_EXT, 20 DTR, 21 TXD, 22 RXD, 23 CTS, 24 RTS, 25 DCD, 26 RI, 27 SIM_VDD, 28 SIM_RST, 29 SIM_DATA, 30 SIM_CLK, 31 SIM_GND, 32 VRTC, 33 VBAT, 34 VBAT, 35 GND, 36 GND, 37 GND, 38 GND, 39 RF_ANT, 40 GND, 41 RESERVED, 42 RESERVED

## M72D
designator U?
pins: 1 TXD, 2 RXD, 3 RTS, 4 CTS, 5 DTR, 6 NC, 7 NC, 8 SIM-GND, 9 SIM-PRESENCE, 10 SIM-DATA, 11 SIM-VDD, 12 SIM-CLK, 13 SIM-RST, 14 PWRKEY, 15 EMERG-OFF, 16 VDD-EXT, 17 VRTC, 18 DBG-TXD, 19 DBG-RXD, 20 DCD, 21 NETLIGHT, 22 STATUS, 23 RI, 24 VBAT, 25 VBAT, 26 GND, 27 GND, 28 RF-ANT, 29 GND, 30 GND

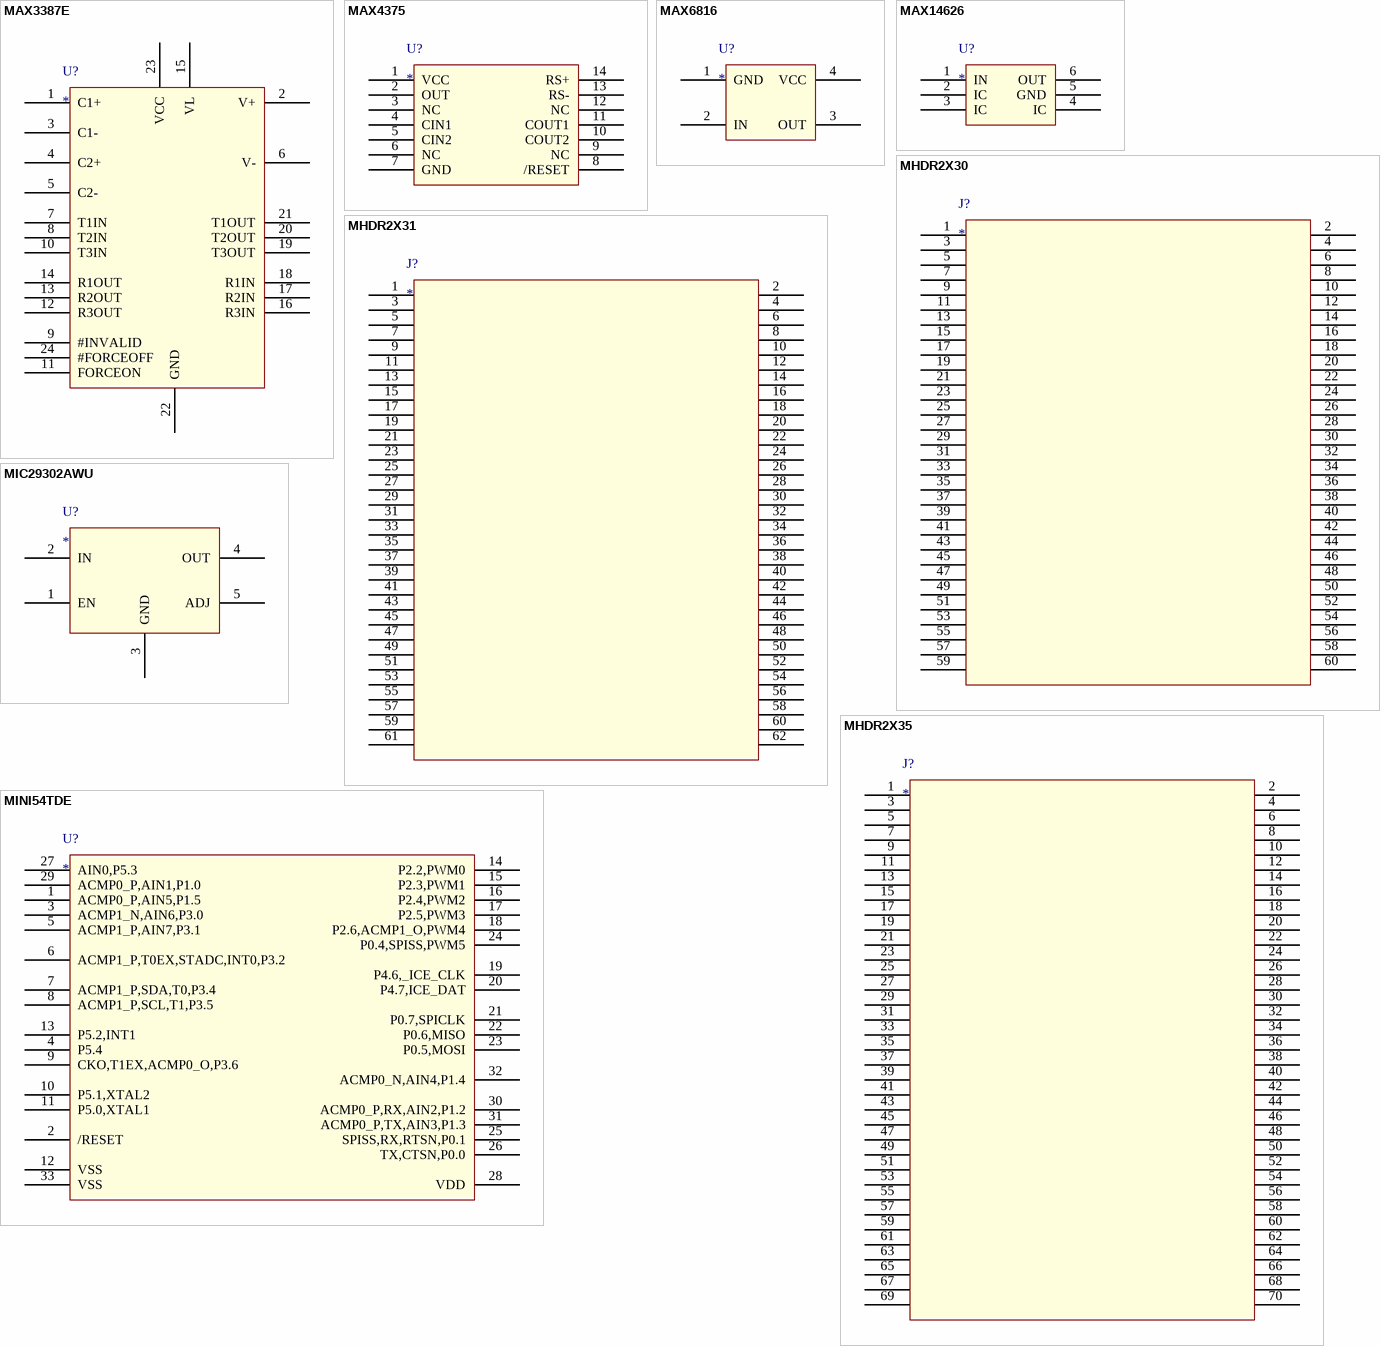
[diagram p5: symbols MAX3387E to MINI54TDE]

## MAX3387E
designator U?
pins: 1 C1+, 2 V+, 3 C1-, 4 C2+, 5 C2-, 6 V-, 7 T1IN, 8 T2IN, 9 #INVALID, 10 T3IN, 11 FORCEON, 12 R3OUT, 13 R2OUT, 14 R1OUT, 15 VL, 16 R3IN, 17 R2IN, 18 R1IN, 19 T3OUT, 20 T2OUT, 21 T1OUT, 22 GND, 23 VCC, 24 #FORCEOFF

## MAX4375
designator U?
pins: 1 VCC, 2 OUT, 3 NC, 4 CIN1, 5 CIN2, 6 NC, 7 GND, 8 /RESET, 9 NC, 10 COUT2, 11 COUT1, 12 NC, 13 RS-, 14 RS+

## MAX6816
designator U?
pins: 1 GND, 2 IN, 3 OUT, 4 VCC

## MAX14626
designator U?
pins: 1 IN, 2 IC, 3 IC, 4 IC, 5 GND, 6 OUT

## MHDR2X30
designator J?
pins: 1, 2, 3, 4, 5, 6, 7, 8, 9, 10, 11, 12, 13, 14, 15, 16, 17, 18, 19, 20, 21, 22, 23, 24, 25, 26, 27, 28, 29, 30, 31, 32, 33, 34, 35, 36, 37, 38, 39, 40, 41, 42, 43, 44, 45, 46, 47, 48, 49, 50, 51, 52, 53, 54, 55, 56, 57, 58, 59, 60

## MHDR2X31
designator J?
pins: 1, 2, 3, 4, 5, 6, 7, 8, 9, 10, 11, 12, 13, 14, 15, 16, 17, 18, 19, 20, 21, 22, 23, 24, 25, 26, 27, 28, 29, 30, 31, 32, 33, 34, 35, 36, 37, 38, 39, 40, 41, 42, 43, 44, 45, 46, 47, 48, 49, 50, 51, 52, 53, 54, 55, 56, 57, 58, 59, 60, 61, 62

## MHDR2X35
designator J?
pins: 1, 2, 3, 4, 5, 6, 7, 8, 9, 10, 11, 12, 13, 14, 15, 16, 17, 18, 19, 20, 21, 22, 23, 24, 25, 26, 27, 28, 29, 30, 31, 32, 33, 34, 35, 36, 37, 38, 39, 40, 41, 42, 43, 44, 45, 46, 47, 48, 49, 50, 51, 52, 53, 54, 55, 56, 57, 58, 59, 60, 61, 62, 63, 64, 65, 66, 67, 68, 69, 70

## MIC29302AWU
designator U?
pins: 1 EN, 2 IN, 3 GND, 4 OUT, 5 ADJ

## MINI54TDE
designator U?
pins: 1 ACMP0_P,AIN5,P1.5, 2 /RESET, 3 ACMP1_N,AIN6,P3.0, 4 P5.4, 5 ACMP1_P,AIN7,P3.1, 6 ACMP1_P,T0EX,STADC,INT0,P3.2, 7 ACMP1_P,SDA,T0,P3.4, 8 ACMP1_P,SCL,T1,P3.5, 9 CKO,T1EX,ACMP0_O,P3.6, 10 P5.1,XTAL2, 11 P5.0,XTAL1, 12 VSS, 13 P5.2,INT1, 14 P2.2,PWM0, 15 P2.3,PWM1, 16 P2.4,PWM2, 17 P2.5,PWM3, 18 P2.6,ACMP1_O,PWM4, 19 P4.6,_ICE_CLK, 20 P4.7,ICE_DAT, 21 P0.7,SPICLK, 22 P0.6,MISO, 23 P0.5,MOSI, 24 P0.4,SPISS,PWM5, 25 SPISS,RX,RTSN,P0.1, 26 TX,CTSN,P0.0, 27 AIN0,P5.3, 28 VDD, 29 ACMP0_P,AIN1,P1.0, 30 ACMP0_P,RX,AIN2,P1.2, 31 ACMP0_P,TX,AIN3,P1.3, 32 ACMP0_N,AIN4,P1.4, 33 VSS

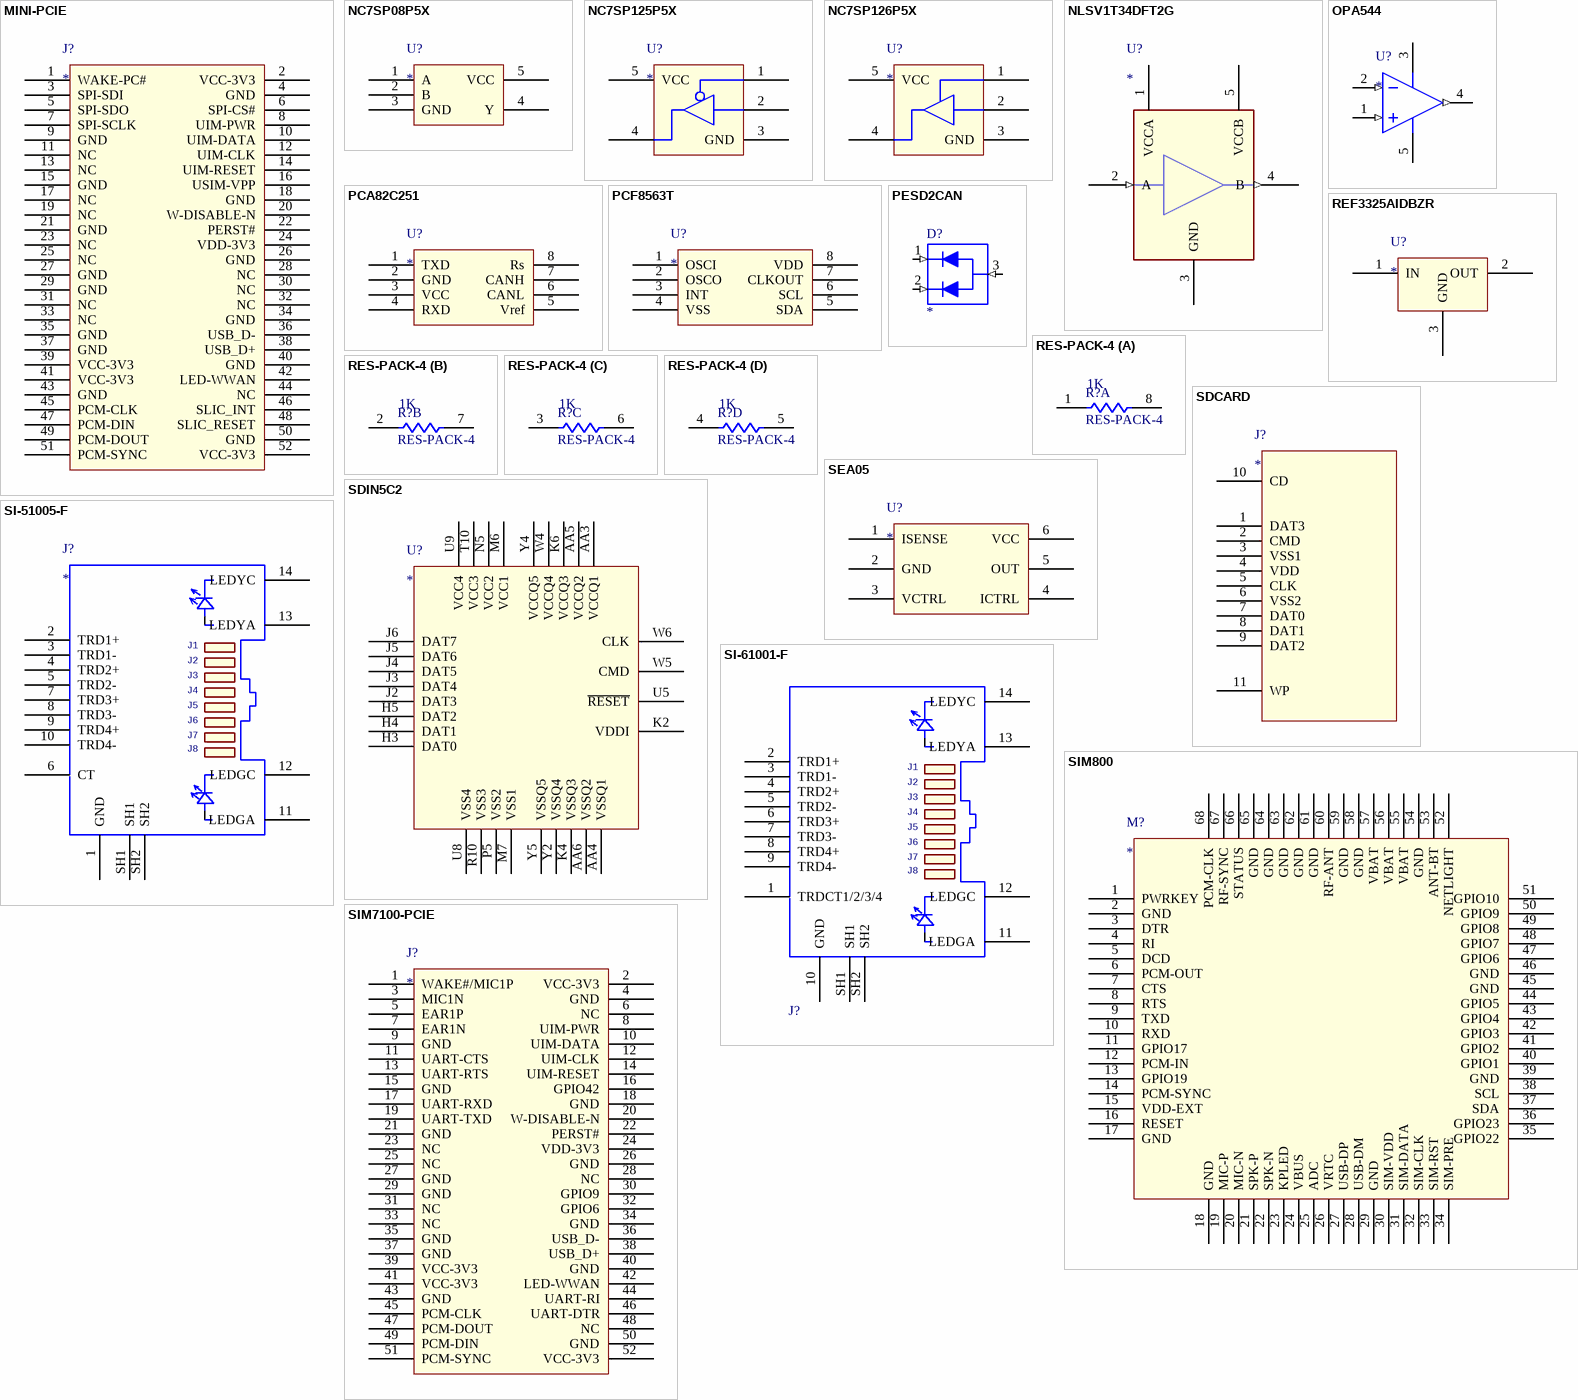
[diagram p6: symbols MINI-PCIE to SIM7100-PCIE]

## MINI-PCIE
designator J?
pins: 1 WAKE-PC#, 2 VCC-3V3, 3 SPI-SDI, 4 GND, 5 SPI-SDO, 6 SPI-CS#, 7 SPI-SCLK, 8 UIM-PWR, 9 GND, 10 UIM-DATA, 11 NC, 12 UIM-CLK, 13 NC, 14 UIM-RESET, 15 GND, 16 USIM-VPP, 17 NC, 18 GND, 19 NC, 20 W-DISABLE-N, 21 GND, 22 PERST#, 23 NC, 24 VDD-3V3, 25 NC, 26 GND, 27 GND, 28 NC, 29 GND, 30 NC, 31 NC, 32 NC, 33 NC, 34 GND, 35 GND, 36 USB_D-, 37 GND, 38 USB_D+, 39 VCC-3V3, 40 GND, 41 VCC-3V3, 42 LED-WWAN, 43 GND, 44 NC, 45 PCM-CLK, 46 SLIC_INT, 47 PCM-DIN, 48 SLIC_RESET, 49 PCM-DOUT, 50 GND, 51 PCM-SYNC, 52 VCC-3V3

## NC7SP08P5X
designator U?
pins: 1 A, 2 B, 3 GND, 4 Y, 5 VCC

## NC7SP125P5X
designator U?
pins: 1 OE, 2 A, 3 GND, 4 Y, 5 VCC

## NC7SP126P5X
designator U?
pins: 1 OE, 2 A, 3 GND, 4 Y, 5 VCC

## NLSV1T34DFT2G
designator U?
pins: 1 VCCA (power), 2 A (in), 3 GND (power), 4 B (out), 5 VCCB (power)

## OPA544
designator U?
pins: 1 IN+ (in), 2 IN- (in), 3 V- (power), 4 OUT (out), 5 V+ (power)

## PCA82C251
designator U?
pins: 1 TXD, 2 GND, 3 VCC, 4 RXD, 5 Vref, 6 CANL, 7 CANH, 8 Rs

## PCF8563T
designator U?
pins: 1 OSCI, 2 OSCO, 3 INT, 4 VSS, 5 SDA, 6 SCL, 7 CLKOUT, 8 VDD

## PESD2CAN
designator D?
Part Number: SCA00000J00
footprint PESD5V2S2UT_SOT23-3
pins: 1 (in), 2 (in), 3 (in)

## REF3325AIDBZR
designator U?
pins: 1 IN, 2 OUT, 3 GND

## RES-PACK-4
designator R?  value 1K
Isolated Resistor Network - Parts; Sim Note: Enter the Resistance value into parameter field.; Published: 24-Mar-1999; LatestRevisionDate: 29-May-2009; LatestRevisionNote: IPC-7351 Footprint Added.; PackageReference: SOIC16; Publisher: Altium Limited; PackageDescription: 16-Pin Small Outline Integrated Circuit 1.27 mm Pitch; Code_JEDEC: MS-012-AC; Code_IPC: SOIC127P600-16
footprint SOIC16_N (SOIC, 16-Leads, Body 9.9x3.9mm, Pitch 1.27mm, IPC Medium Density)
footprint SOIC16_L (SOIC, 16-Leads, Body 9.9x3.9mm, Pitch 1.27mm, IPC High Density)
footprint SOIC16_M (SOIC, 16-Leads, Body 9.9x3.9mm, Pitch 1.27mm, IPC Low Density)
simulation model RESISTOR (Resistor)
signal-integrity model Res Pack
part A pins: 1, 8
part B pins: 2, 7
part C pins: 3, 6
part D pins: 4, 5

## SDCARD
designator J?
pins: 1 DAT3, 2 CMD, 3 VSS1, 4 VDD, 5 CLK, 6 VSS2, 7 DAT0, 8 DAT1, 9 DAT2, 10 CD, 11 WP

## SDIN5C2
designator U?
pins: AA3 VCCQ1, AA4 VSSQ1, AA5 VCCQ2, AA6 VSSQ2, H3 DAT0, H4 DAT1, H5 DAT2, J2 DAT3, J3 DAT4, J4 DAT5, J5 DAT6, J6 DAT7, K2 VDDI, K4 VSSQ3, K6 VCCQ3, M6 VCC1, M7 VSS1, N5 VCC2, P5 VSS2, R10 VSS3, T10 VCC3, U5 ~{RESET}, U8 VSS4, U9 VCC4, W4 VCCQ4, W5 CMD, W6 CLK, Y2 VSSQ4, Y4 VCCQ5, Y5 VSSQ5

## SEA05
designator U?
pins: 1 ISENSE, 2 GND, 3 VCTRL, 4 ICTRL, 5 OUT, 6 VCC

## SI-51005-F
designator J?
pins: 1 GND (power), 2 TRD1+, 3 TRD1-, 4 TRD2+, 5 TRD2-, 6 CT, 7 TRD3+, 8 TRD3-, 9 TRD4+, 10 TRD4-, 11 LEDGA, 12 LEDGC, 13 LEDYA, 14 LEDYC, SH1, SH2
text: J1; J2; J3; J4; J5; J6; J7; J8

## SI-61001-F
designator J?
CLASS: IO
pins: 1 TRDCT1/2/3/4, 2 TRD1+, 3 TRD1-, 4 TRD2+, 5 TRD2-, 6 TRD3+, 7 TRD3-, 8 TRD4+, 9 TRD4-, 10 GND (power), 11 LEDGA, 12 LEDGC, 13 LEDYA, 14 LEDYC, SH1, SH2
text: J1; J2; J3; J4; J5; J6; J7; J8

## SIM800
designator M?
pins: 1 PWRKEY, 2 GND, 3 DTR, 4 RI, 5 DCD, 6 PCM-OUT, 7 CTS, 8 RTS, 9 TXD, 10 RXD, 11 GPIO17, 12 PCM-IN, 13 GPIO19, 14 PCM-SYNC, 15 VDD-EXT, 16 RESET, 17 GND, 18 GND, 19 MIC-P, 20 MIC-N, 21 SPK-P, 22 SPK-N, 23 KPLED, 24 VBUS, 25 ADC, 26 VRTC, 27 USB-DP, 28 USB-DM, 29 GND, 30 SIM-VDD, 31 SIM-DATA, 32 SIM-CLK, 33 SIM-RST, 34 SIM-PRE, 35 GPIO22, 36 GPIO23, 37 SDA, 38 SCL, 39 GND, 40 GPIO1, 41 GPIO2, 42 GPIO3, 43 GPIO4, 44 GPIO5, 45 GND, 46 GND, 47 GPIO6, 48 GPIO7, 49 GPIO8, 50 GPIO9, 51 GPIO10, 52 NETLIGHT, 53 ANT-BT, 54 GND, 55 VBAT, 56 VBAT, 57 VBAT, 58 GND, 59 GND, 60 RF-ANT, 61 GND, 62 GND, 63 GND, 64 GND, 65 GND, 66 STATUS, 67 RF-SYNC, 68 PCM-CLK

## SIM7100-PCIE
designator J?
pins: 1 WAKE#/MIC1P, 2 VCC-3V3, 3 MIC1N, 4 GND, 5 EAR1P, 6 NC, 7 EAR1N, 8 UIM-PWR, 9 GND, 10 UIM-DATA, 11 UART-CTS, 12 UIM-CLK, 13 UART-RTS, 14 UIM-RESET, 15 GND, 16 GPIO42, 17 UART-RXD, 18 GND, 19 UART-TXD, 20 W-DISABLE-N, 21 GND, 22 PERST#, 23 NC, 24 VDD-3V3, 25 NC, 26 GND, 27 GND, 28 NC, 29 GND, 30 GPIO9, 31 NC, 32 GPIO6, 33 NC, 34 GND, 35 GND, 36 USB_D-, 37 GND, 38 USB_D+, 39 VCC-3V3, 40 GND, 41 VCC-3V3, 42 LED-WWAN, 43 GND, 44 UART-RI, 45 PCM-CLK, 46 UART-DTR, 47 PCM-DOUT, 48 NC, 49 PCM-DIN, 50 GND, 51 PCM-SYNC, 52 VCC-3V3

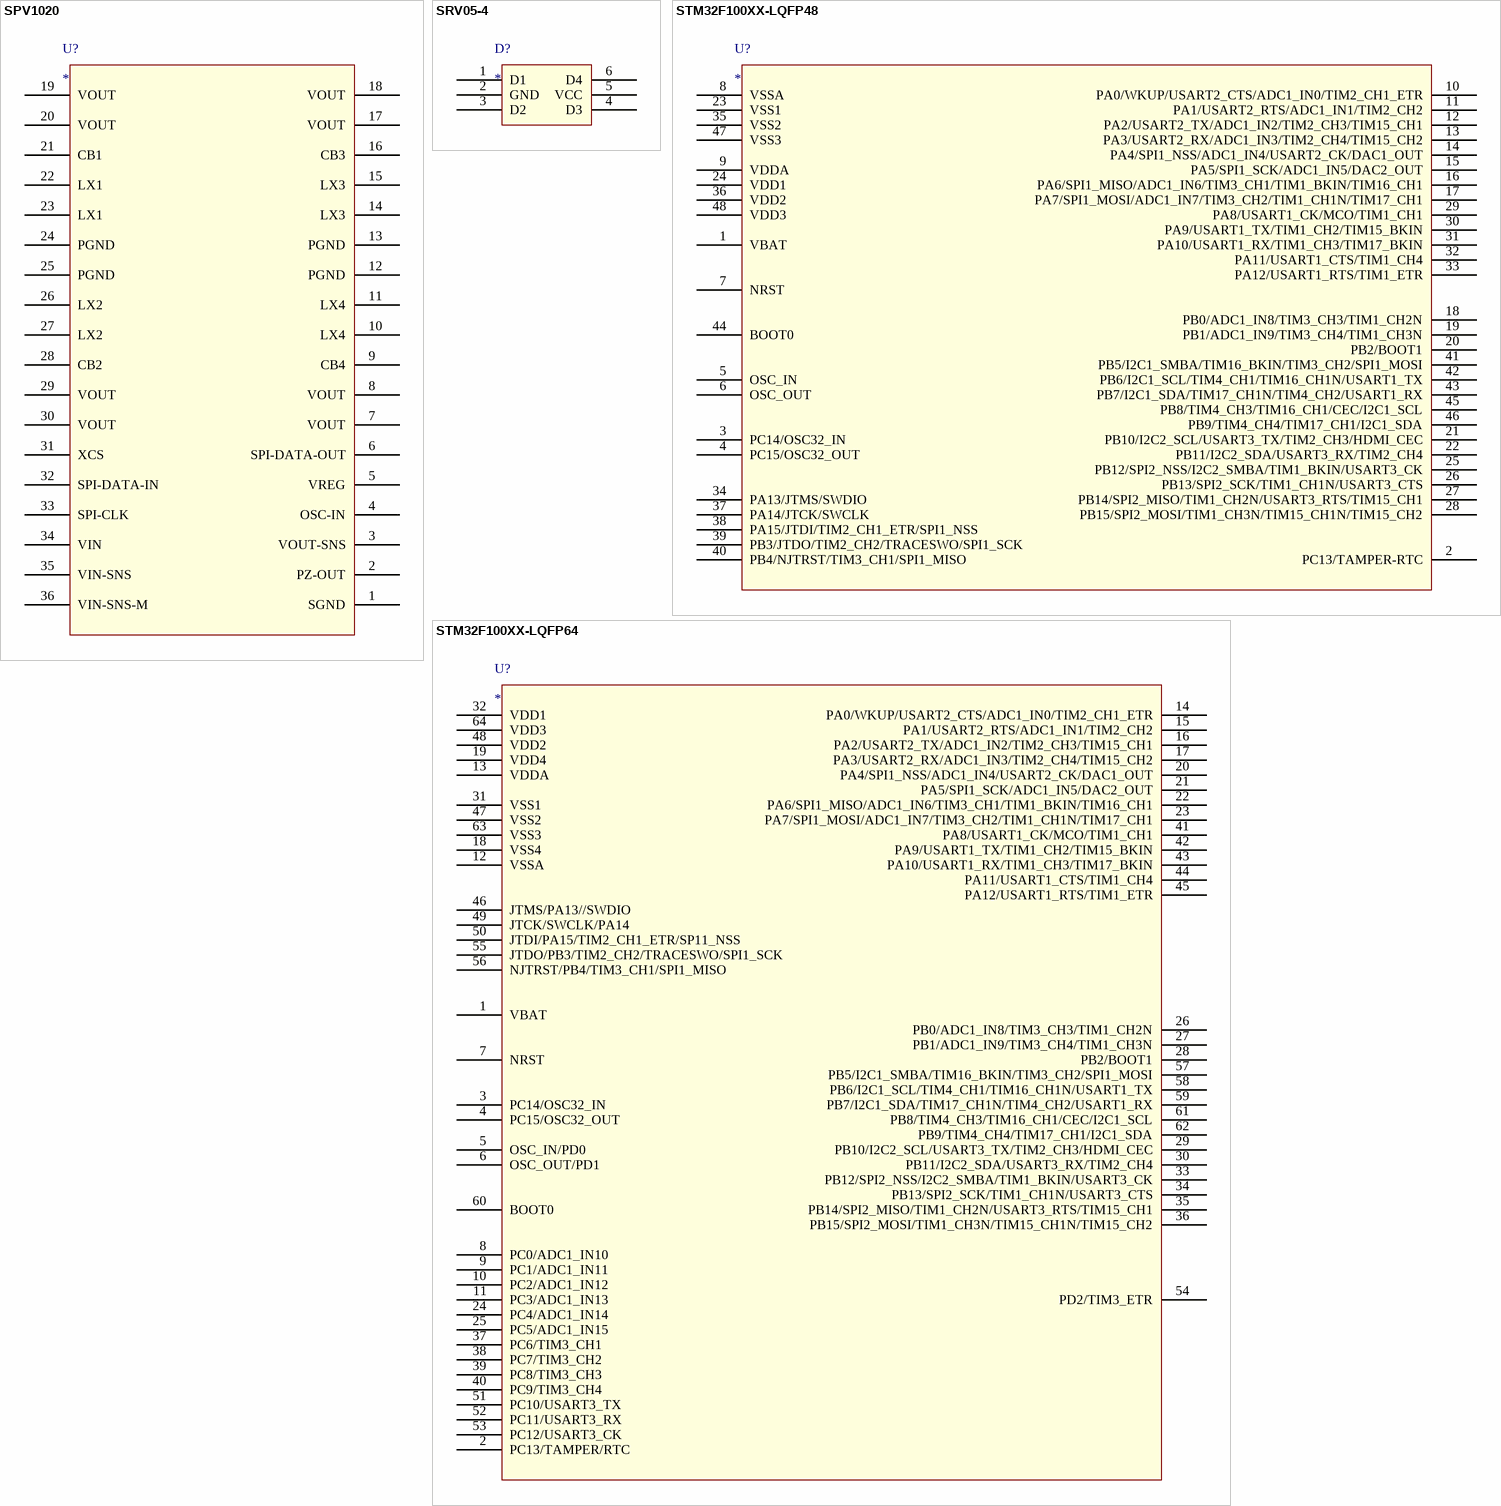
[diagram p7: symbols SPV1020 to STM32F100XX-LQFP64]

## SPV1020
designator U?
pins: 1 SGND, 2 PZ-OUT, 3 VOUT-SNS, 4 OSC-IN, 5 VREG, 6 SPI-DATA-OUT, 7 VOUT, 8 VOUT, 9 CB4, 10 LX4, 11 LX4, 12 PGND, 13 PGND, 14 LX3, 15 LX3, 16 CB3, 17 VOUT, 18 VOUT, 19 VOUT, 20 VOUT, 21 CB1, 22 LX1, 23 LX1, 24 PGND, 25 PGND, 26 LX2, 27 LX2, 28 CB2, 29 VOUT, 30 VOUT, 31 XCS, 32 SPI-DATA-IN, 33 SPI-CLK, 34 VIN, 35 VIN-SNS, 36 VIN-SNS-M

## SRV05-4
designator D?
pins: 1 D1, 2 GND, 3 D2, 4 D3, 5 VCC, 6 D4

## STM32F100XX-LQFP48
designator U?
pins: 1 VBAT, 2 PC13/TAMPER-RTC, 3 PC14/OSC32_IN, 4 PC15/OSC32_OUT, 5 OSC_IN, 6 OSC_OUT, 7 NRST, 8 VSSA, 9 VDDA, 10 PA0/WKUP/USART2_CTS/ADC1_IN0/TIM2_CH1_ETR, 11 PA1/USART2_RTS/ADC1_IN1/TIM2_CH2, 12 PA2/USART2_TX/ADC1_IN2/TIM2_CH3/TIM15_CH1, 13 PA3/USART2_RX/ADC1_IN3/TIM2_CH4/TIM15_CH2, 14 PA4/SPI1_NSS/ADC1_IN4/USART2_CK/DAC1_OUT, 15 PA5/SPI1_SCK/ADC1_IN5/DAC2_OUT, 16 PA6/SPI1_MISO/ADC1_IN6/TIM3_CH1/TIM1_BKIN/TIM16_CH1, 17 PA7/SPI1_MOSI/ADC1_IN7/TIM3_CH2/TIM1_CH1N/TIM17_CH1, 18 PB0/ADC1_IN8/TIM3_CH3/TIM1_CH2N, 19 PB1/ADC1_IN9/TIM3_CH4/TIM1_CH3N, 20 PB2/BOOT1, 21 PB10/I2C2_SCL/USART3_TX/TIM2_CH3/HDMI_CEC, 22 PB11/I2C2_SDA/USART3_RX/TIM2_CH4, 23 VSS1, 24 VDD1, 25 PB12/SPI2_NSS/I2C2_SMBA/TIM1_BKIN/USART3_CK, 26 PB13/SPI2_SCK/TIM1_CH1N/USART3_CTS, 27 PB14/SPI2_MISO/TIM1_CH2N/USART3_RTS/TIM15_CH1, 28 PB15/SPI2_MOSI/TIM1_CH3N/TIM15_CH1N/TIM15_CH2, 29 PA8/USART1_CK/MCO/TIM1_CH1, 30 PA9/USART1_TX/TIM1_CH2/TIM15_BKIN, 31 PA10/USART1_RX/TIM1_CH3/TIM17_BKIN, 32 PA11/USART1_CTS/TIM1_CH4, 33 PA12/USART1_RTS/TIM1_ETR, 34 PA13/JTMS/SWDIO, 35 VSS2, 36 VDD2, 37 PA14/JTCK/SWCLK, 38 PA15/JTDI/TIM2_CH1_ETR/SPI1_NSS, 39 PB3/JTDO/TIM2_CH2/TRACESWO/SPI1_SCK, 40 PB4/NJTRST/TIM3_CH1/SPI1_MISO, 41 PB5/I2C1_SMBA/TIM16_BKIN/TIM3_CH2/SPI1_MOSI, 42 PB6/I2C1_SCL/TIM4_CH1/TIM16_CH1N/USART1_TX, 43 PB7/I2C1_SDA/TIM17_CH1N/TIM4_CH2/USART1_RX, 44 BOOT0, 45 PB8/TIM4_CH3/TIM16_CH1/CEC/I2C1_SCL, 46 PB9/TIM4_CH4/TIM17_CH1/I2C1_SDA, 47 VSS3, 48 VDD3

## STM32F100XX-LQFP64
designator U?
pins: 1 VBAT, 2 PC13/TAMPER/RTC, 3 PC14/OSC32_IN, 4 PC15/OSC32_OUT, 5 OSC_IN/PD0, 6 OSC_OUT/PD1, 7 NRST, 8 PC0/ADC1_IN10, 9 PC1/ADC1_IN11, 10 PC2/ADC1_IN12, 11 PC3/ADC1_IN13, 12 VSSA, 13 VDDA, 14 PA0/WKUP/USART2_CTS/ADC1_IN0/TIM2_CH1_ETR, 15 PA1/USART2_RTS/ADC1_IN1/TIM2_CH2, 16 PA2/USART2_TX/ADC1_IN2/TIM2_CH3/TIM15_CH1, 17 PA3/USART2_RX/ADC1_IN3/TIM2_CH4/TIM15_CH2, 18 VSS4, 19 VDD4, 20 PA4/SPI1_NSS/ADC1_IN4/USART2_CK/DAC1_OUT, 21 PA5/SPI1_SCK/ADC1_IN5/DAC2_OUT, 22 PA6/SPI1_MISO/ADC1_IN6/TIM3_CH1/TIM1_BKIN/TIM16_CH1, 23 PA7/SPI1_MOSI/ADC1_IN7/TIM3_CH2/TIM1_CH1N/TIM17_CH1, 24 PC4/ADC1_IN14, 25 PC5/ADC1_IN15, 26 PB0/ADC1_IN8/TIM3_CH3/TIM1_CH2N, 27 PB1/ADC1_IN9/TIM3_CH4/TIM1_CH3N, 28 PB2/BOOT1, 29 PB10/I2C2_SCL/USART3_TX/TIM2_CH3/HDMI_CEC, 30 PB11/I2C2_SDA/USART3_RX/TIM2_CH4, 31 VSS1, 32 VDD1, 33 PB12/SPI2_NSS/I2C2_SMBA/TIM1_BKIN/USART3_CK, 34 PB13/SPI2_SCK/TIM1_CH1N/USART3_CTS, 35 PB14/SPI2_MISO/TIM1_CH2N/USART3_RTS/TIM15_CH1, 36 PB15/SPI2_MOSI/TIM1_CH3N/TIM15_CH1N/TIM15_CH2, 37 PC6/TIM3_CH1, 38 PC7/TIM3_CH2, 39 PC8/TIM3_CH3, 40 PC9/TIM3_CH4, 41 PA8/USART1_CK/MCO/TIM1_CH1, 42 PA9/USART1_TX/TIM1_CH2/TIM15_BKIN, 43 PA10/USART1_RX/TIM1_CH3/TIM17_BKIN, 44 PA11/USART1_CTS/TIM1_CH4, 45 PA12/USART1_RTS/TIM1_ETR, 46 JTMS/PA13//SWDIO, 47 VSS2, 48 VDD2, 49 JTCK/SWCLK/PA14, 50 JTDI/PA15/TIM2_CH1_ETR/SP11_NSS, 51 PC10/USART3_TX, 52 PC11/USART3_RX, 53 PC12/USART3_CK, 54 PD2/TIM3_ETR, 55 JTDO/PB3/TIM2_CH2/TRACESWO/SPI1_SCK, 56 NJTRST/PB4/TIM3_CH1/SPI1_MISO, 57 PB5/I2C1_SMBA/TIM16_BKIN/TIM3_CH2/SPI1_MOSI, 58 PB6/I2C1_SCL/TIM4_CH1/TIM16_CH1N/USART1_TX, 59 PB7/I2C1_SDA/TIM17_CH1N/TIM4_CH2/USART1_RX, 60 BOOT0, 61 PB8/TIM4_CH3/TIM16_CH1/CEC/I2C1_SCL, 62 PB9/TIM4_CH4/TIM17_CH1/I2C1_SDA, 63 VSS3, 64 VDD3

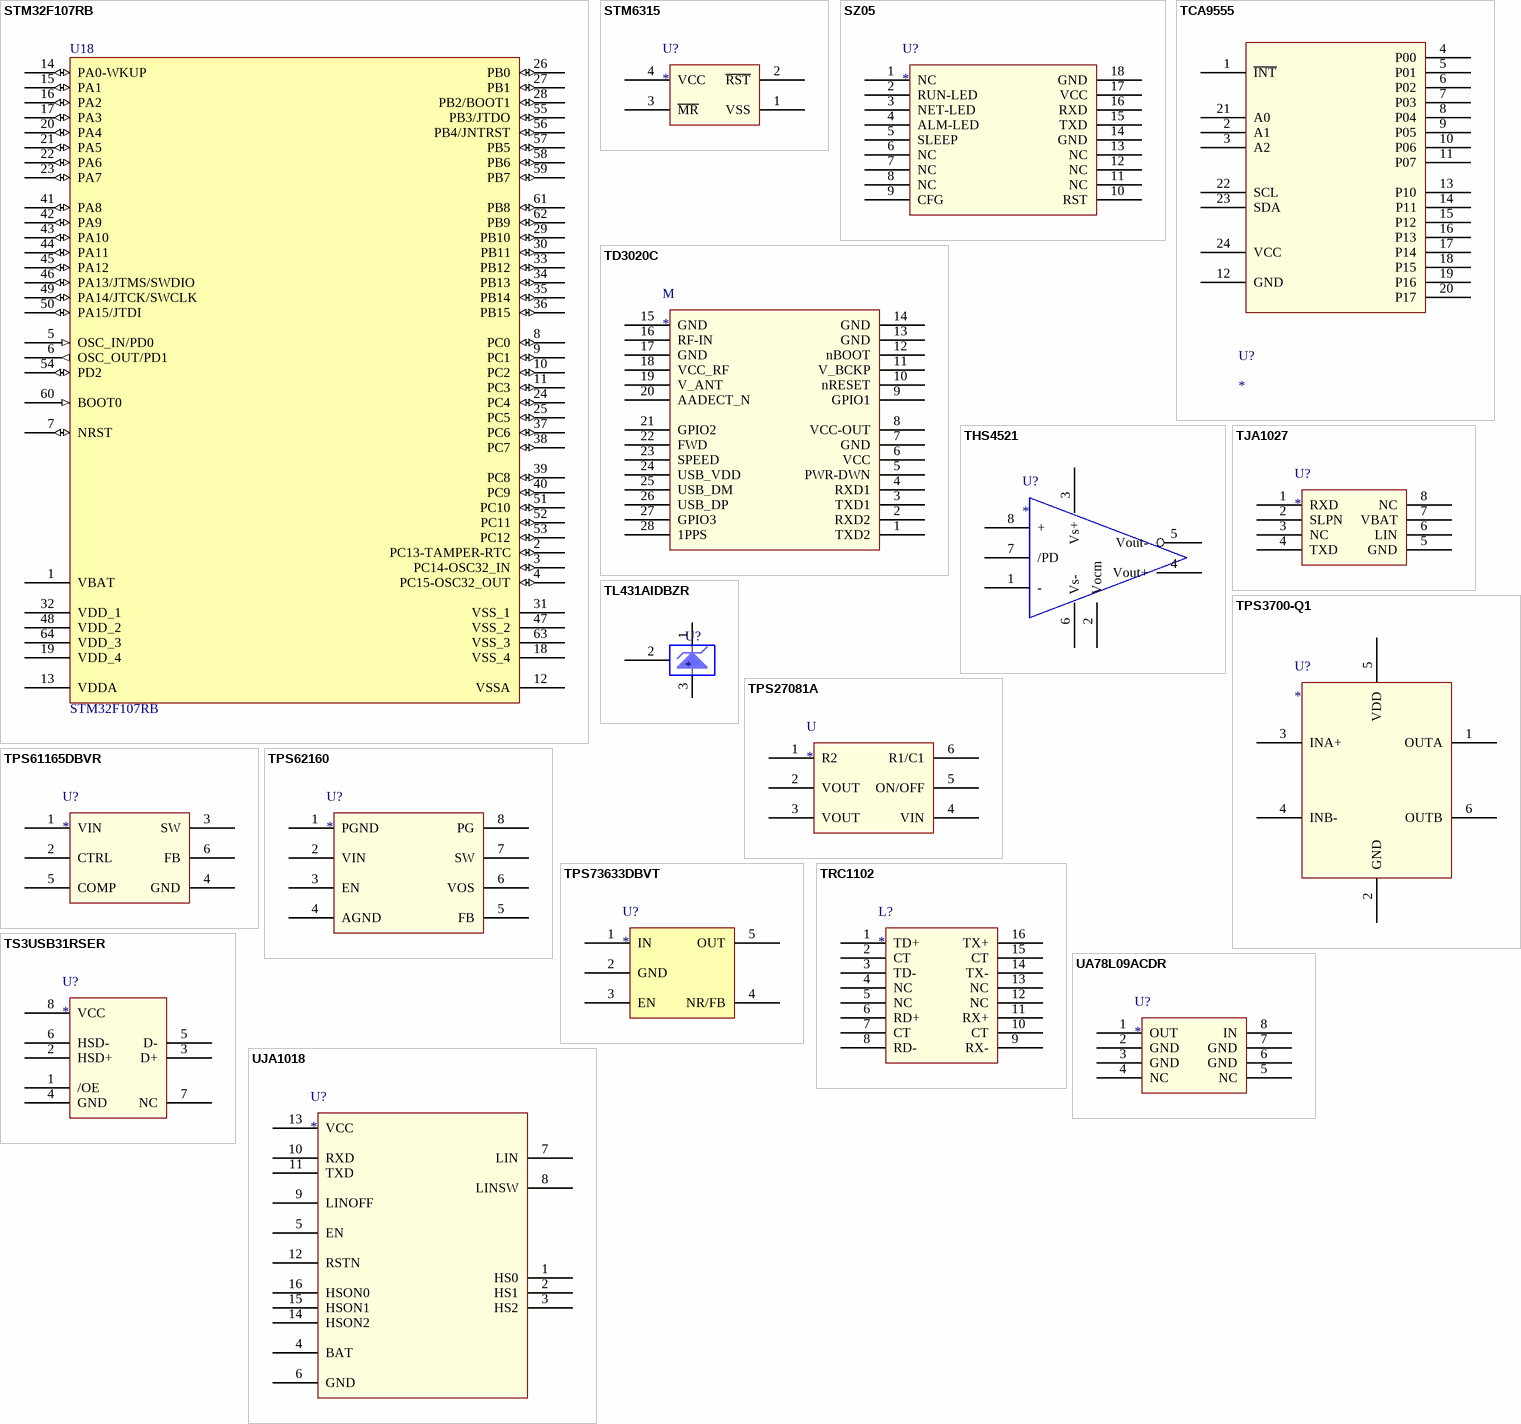
[diagram p8: symbols STM32F107RB to UJA1018]

## STM32F107RB
designator U18
STM32 ARM-based 32-bit MCU with 64 Kbytes Flash, 64-pin LQFP, Industrial Temperature; Published: 30-May-2008; DatasheetVersion: rev6, Mar-2008; PackageVersion: Mar-2008; PackageReference: LQFP64; Publisher: Altium Limited; PackageDescription: 64-Pin Low-Profile Quad Flat Pack, 10 x 10 mm Body, 0.5 mm Pitch (LQFP64); ComponentLink1Description: Manufacturer Link; ComponentLink1URL: www.st.com/stm32; ComponentLink2Description: Datasheet; ComponentLink2URL: http://www.st.com/stonline/products/literature/ds/13587.pdf
footprint LQFP64_N (Thin QFP, 64-Leads, Body 10x10mm, Pitch 0.5mm, IPC Medium Density)
footprint LQFP64_L (Thin QFP, 64-Leads, Body 10x10mm, Pitch 0.5mm, IPC High Density)
footprint LQFP64_M (Thin QFP, 64-Leads, Body 10x10mm, Pitch 0.5mm, IPC Low Density)
pins: 1 VBAT (power), 2 PC13-TAMPER-RTC (io), 3 PC14-OSC32_IN (io), 4 PC15-OSC32_OUT (io), 5 OSC_IN/PD0 (in), 6 OSC_OUT/PD1 (out), 7 NRST (io), 8 PC0 (io), 9 PC1 (io), 10 PC2 (io), 11 PC3 (io), 12 VSSA (power), 13 VDDA (power), 14 PA0-WKUP (io), 15 PA1 (io), 16 PA2 (io), 17 PA3 (io), 18 VSS_4 (power), 19 VDD_4 (power), 20 PA4 (io), 21 PA5 (io), 22 PA6 (io), 23 PA7 (io), 24 PC4 (io), 25 PC5 (io), 26 PB0 (io), 27 PB1 (io), 28 PB2/BOOT1 (io), 29 PB10 (io), 30 PB11 (io), 31 VSS_1 (power), 32 VDD_1 (power), 33 PB12 (io), 34 PB13 (io), 35 PB14 (io), 36 PB15 (io), 37 PC6 (io), 38 PC7 (io), 39 PC8 (io), 40 PC9 (io), 41 PA8 (io), 42 PA9 (io), 43 PA10 (io), 44 PA11 (io), 45 PA12 (io), 46 PA13/JTMS/SWDIO (io), 47 VSS_2 (power), 48 VDD_2 (power), 49 PA14/JTCK/SWCLK (io), 50 PA15/JTDI (io), 51 PC10 (io), 52 PC11 (io), 53 PC12 (io), 54 PD2 (io), 55 PB3/JTDO (io), 56 PB4/JNTRST (io), 57 PB5 (io), 58 PB6 (io), 59 PB7 (io), 60 BOOT0 (in), 61 PB8 (io), 62 PB9 (io), 63 VSS_3 (power), 64 VDD_3 (power)

## STM6315
designator U?
pins: 1 VSS, 2 ~{RST}, 3 ~{MR}, 4 VCC

## SZ05
designator U?
pins: 1 NC, 2 RUN-LED, 3 NET-LED, 4 ALM-LED, 5 SLEEP, 6 NC, 7 NC, 8 NC, 9 CFG, 10 RST, 11 NC, 12 NC, 13 NC, 14 GND, 15 TXD, 16 RXD, 17 VCC, 18 GND

## TCA9555
designator U?
pins: 1 ~{INT}, 2 A1, 3 A2, 4 P00, 5 P01, 6 P02, 7 P03, 8 P04, 9 P05, 10 P06, 11 P07, 12 GND, 13 P10, 14 P11, 15 P12, 16 P13, 17 P14, 18 P15, 19 P16, 20 P17, 21 A0, 22 SCL, 23 SDA, 24 VCC

## TD3020C
designator M
pins: 1 TXD2, 2 RXD2, 3 TXD1, 4 RXD1, 5 PWR-DWN, 6 VCC, 7 GND, 8 VCC-OUT, 9 GPIO1, 10 nRESET, 11 V_BCKP, 12 nBOOT, 13 GND, 14 GND, 15 GND, 16 RF-IN, 17 GND, 18 VCC_RF, 19 V_ANT, 20 AADECT_N, 21 GPIO2, 22 FWD, 23 SPEED, 24 USB_VDD, 25 USB_DM, 26 USB_DP, 27 GPIO3, 28 1PPS

## THS4521
designator U?
pins: 1 -, 2 Vocm, 3 Vs+, 4 Vout+, 5 Vout-, 6 Vs-, 7 /PD, 8 +

## TJA1027
designator U?
pins: 1 RXD, 2 SLPN, 3 NC, 4 TXD, 5 GND, 6 LIN, 7 VBAT, 8 NC

## TL431AIDBZR
designator U?
pins: 1 K, 2 REF, 3 A

## TPS3700-Q1
designator U?
pins: 1 OUTA, 2 GND, 3 INA+, 4 INB-, 5 VDD, 6 OUTB

## TPS27081A
designator U
pins: 1 R2, 2 VOUT, 3 VOUT, 4 VIN, 5 ON/OFF, 6 R1/C1

## TPS61165DBVR
designator U?
pins: 1 VIN, 2 CTRL, 3 SW, 4 GND, 5 COMP, 6 FB

## TPS62160
designator U?
pins: 1 PGND, 2 VIN, 3 EN, 4 AGND, 5 FB, 6 VOS, 7 SW, 8 PG

## TPS73633DBVT
designator U?
pins: 1 IN, 2 GND, 3 EN, 4 NR/FB, 5 OUT

## TRC1102
designator L?
pins: 1 TD+, 2 CT, 3 TD-, 4 NC, 5 NC, 6 RD+, 7 CT, 8 RD-, 9 RX-, 10 CT, 11 RX+, 12 NC, 13 NC, 14 TX-, 15 CT, 16 TX+

## TS3USB31RSER
designator U?
pins: 1 /OE, 2 HSD+, 3 D+, 4 GND, 5 D-, 6 HSD-, 7 NC, 8 VCC

## UA78L09ACDR
designator U?
pins: 1 OUT, 2 GND, 3 GND, 4 NC, 5 NC, 6 GND, 7 GND, 8 IN

## UJA1018
designator U?
pins: 1 HS0, 2 HS1, 3 HS2, 4 BAT, 5 EN, 6 GND, 7 LIN, 8 LINSW, 9 LINOFF, 10 RXD, 11 TXD, 12 RSTN, 13 VCC, 14 HSON2, 15 HSON1, 16 HSON0

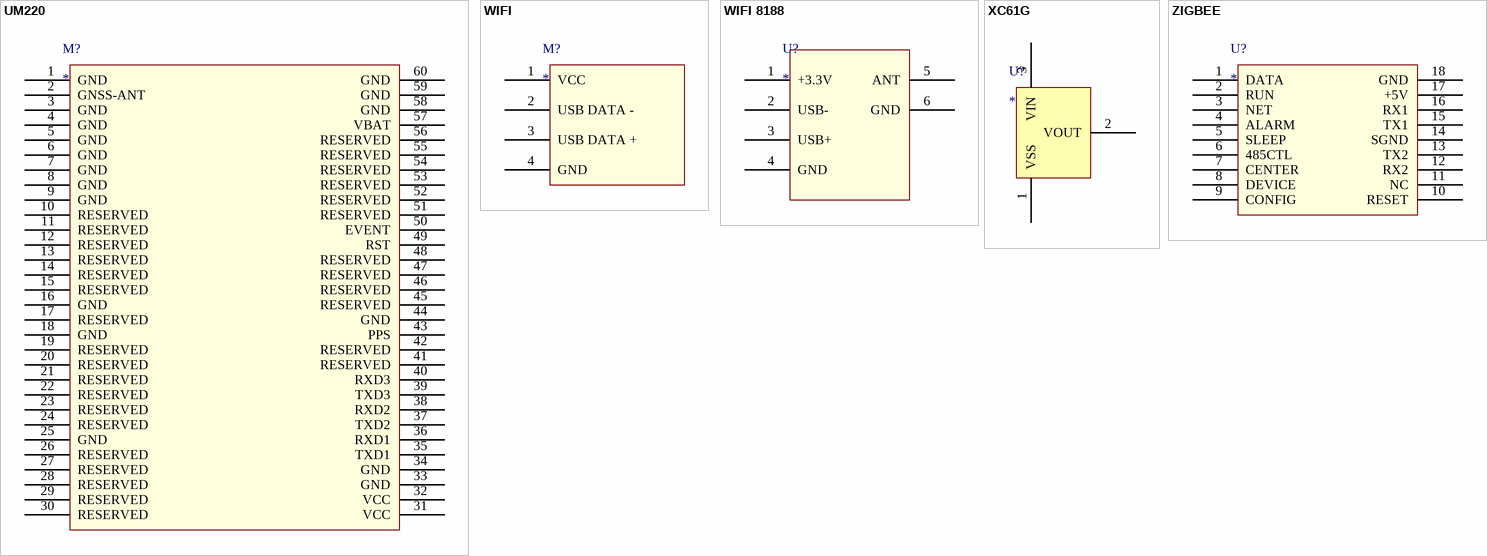
[diagram p9: symbols UM220 to ZIGBEE]

## UM220
designator M?
pins: 1 GND, 2 GNSS-ANT, 3 GND, 4 GND, 5 GND, 6 GND, 7 GND, 8 GND, 9 GND, 10 RESERVED, 11 RESERVED, 12 RESERVED, 13 RESERVED, 14 RESERVED, 15 RESERVED, 16 GND, 17 RESERVED, 18 GND, 19 RESERVED, 20 RESERVED, 21 RESERVED, 22 RESERVED, 23 RESERVED, 24 RESERVED, 25 GND, 26 RESERVED, 27 RESERVED, 28 RESERVED, 29 RESERVED, 30 RESERVED, 31 VCC, 32 VCC, 33 GND, 34 GND, 35 TXD1, 36 RXD1, 37 TXD2, 38 RXD2, 39 TXD3, 40 RXD3, 41 RESERVED, 42 RESERVED, 43 PPS, 44 GND, 45 RESERVED, 46 RESERVED, 47 RESERVED, 48 RESERVED, 49 RST, 50 EVENT, 51 RESERVED, 52 RESERVED, 53 RESERVED, 54 RESERVED, 55 RESERVED, 56 RESERVED, 57 VBAT, 58 GND, 59 GND, 60 GND

## WIFI
designator M?
pins: 1 VCC, 2 USB DATA -, 3 USB DATA +, 4 GND

## WIFI 8188
designator U?
pins: 1 +3.3V, 2 USB-, 3 USB+, 4 GND, 5 ANT, 6 GND

## XC61G
designator U?
pins: 1 VSS, 2 VOUT, 3 VIN

## ZIGBEE
designator U?
pins: 1 DATA, 2 RUN, 3 NET, 4 ALARM, 5 SLEEP, 6 485CTL, 7 CENTER, 8 DEVICE, 9 CONFIG, 10 RESET, 11 NC, 12 RX2, 13 TX2, 14 SGND, 15 TX1, 16 RX1, 17 +5V, 18 GND